# Altium integrated library Altera Stratix IV GT.IntLib: 42 symbols (part 13 of 84)
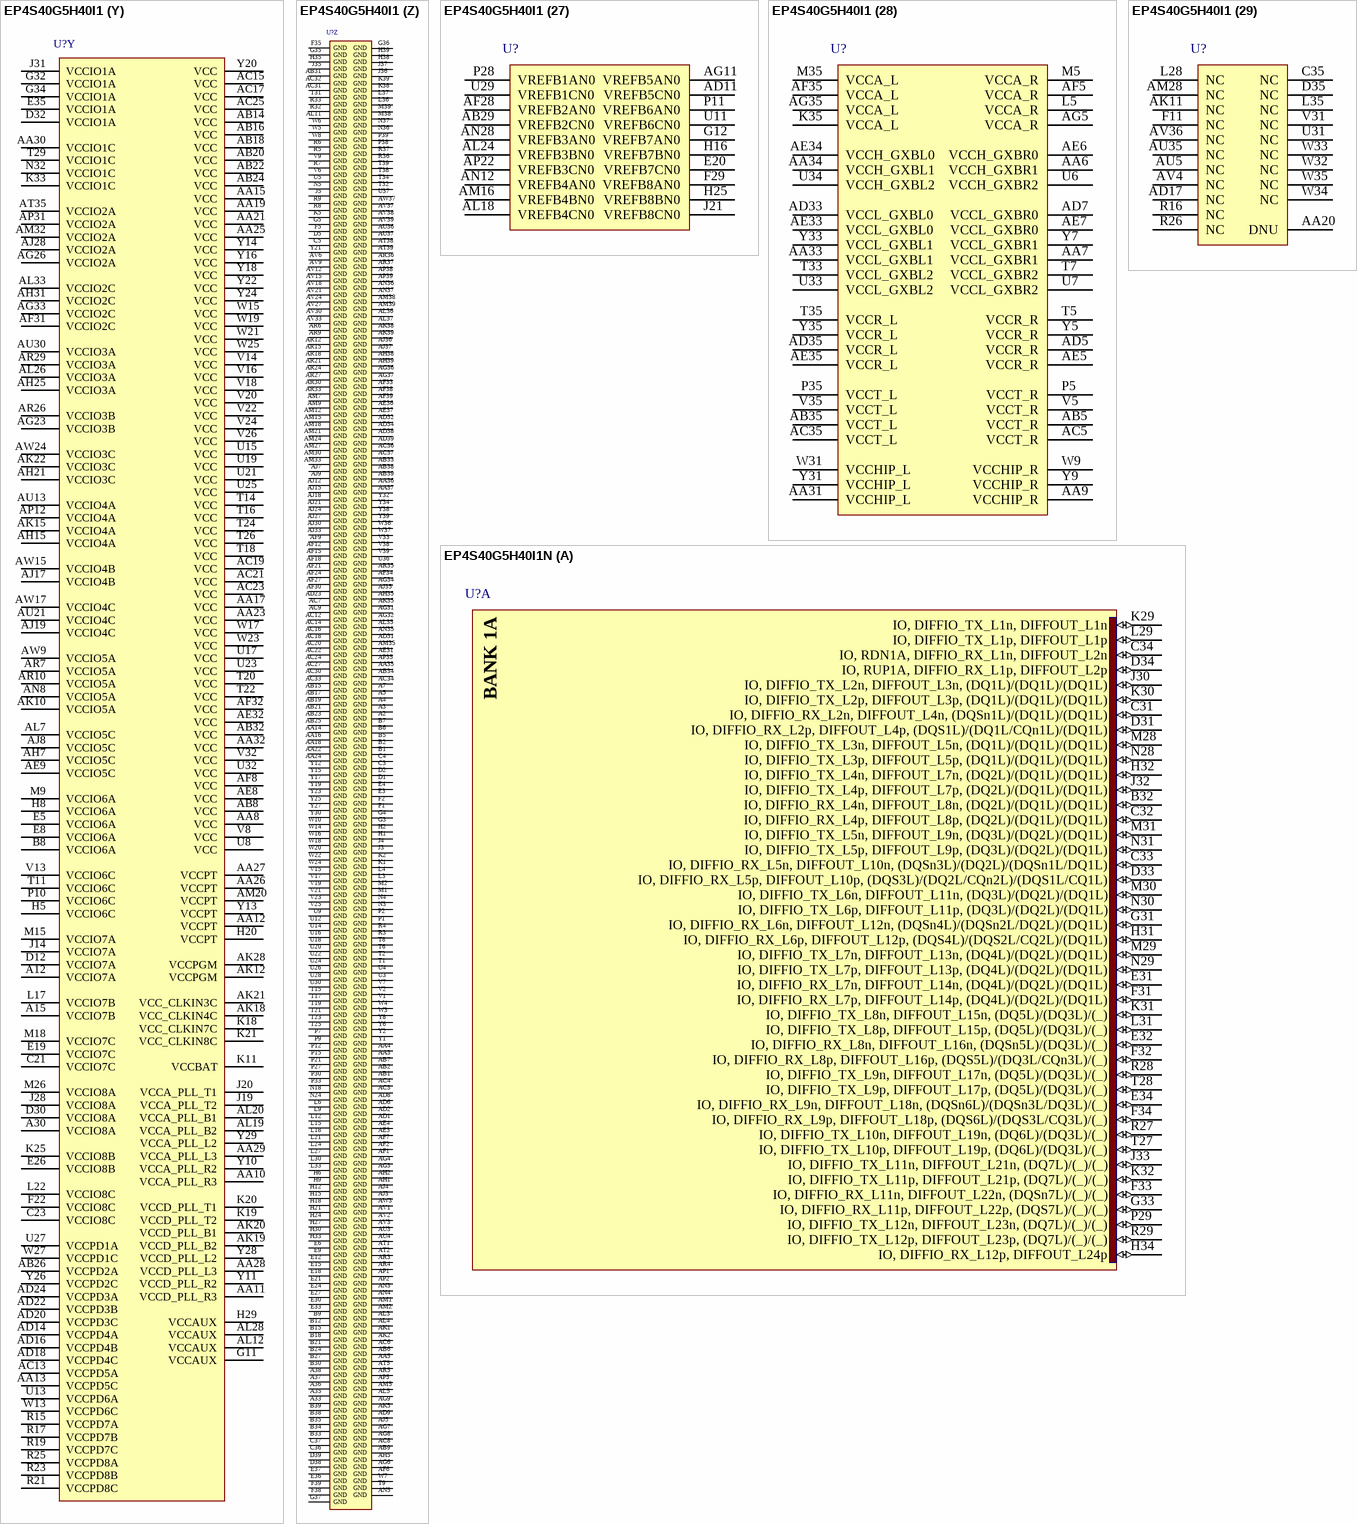
[diagram p281: symbols EP4S40G5H40I1 to EP4S40G5H40I1N]
## EP4S40G5H40I1
designator U?
Stratix IV GT FPGA, 654 I/Os, 1517-Pin Hybrid FineLine BGA, Speed Grade 1, Industrial Grade; Published: 25-Jun-2010; DatasheetVersion: ver4.3, Apr-2010; PackageVersion: ver16.1, Apr-2010; PackageReference: HBGA1517_EP4S40G5_SPL; Publisher: Altium Limited; PackageDescription: 1517-Ball Hybrid FineLine Ball Grid Array (HBGA1517) - Flip Chip - Single-Piece Lid (EP4S40G5); Supplier 1: Digi-Key; Supplier Part Number 1: EP4S40G5H40I1-ND; Code_JEDEC: MS-034-AAV-1; ComponentLink1Description: Manufacturer Link; ComponentLink1URL: http://www.altera.com/; ComponentLink2Description: Handbook; ComponentLink2URL: http://www.altera.com/literature/hb/stratix-iv/stratix4_handbook.pdf; ComponentLink3Description: Pinout Specification; ComponentLink3URL: http://www.altera.com/literature/lit-dp.jsp?category=Stx%204&showspreadsheet=y; ComponentLink4Description: Packaging Specification; ComponentLink4URL: http://www.altera.com/literature/ds/dspkg.pdf
footprint HBGA1517_EP4S40G5_SPL (BGA, 1517-Leads, Body 42.5x42.5mm, Pitch 1mm)
signal-integrity model EP4SGT_H1517 (Stratix IV)
part A pins: B32 IO, DIFFIO_RX_L4n, DIFFOUT_L8n, (DQ2L)/(DQ1L)/(DQ1L) (io), C31 IO, DIFFIO_RX_L2n, DIFFOUT_L4n, (DQSn1L)/(DQ1L)/(DQ1L) (io), C32 IO, DIFFIO_RX_L4p, DIFFOUT_L8p, (DQ2L)/(DQ1L)/(DQ1L) (io), C33 IO, DIFFIO_RX_L5n, DIFFOUT_L10n, (DQSn3L)/(DQ2L)/(DQSn1L/DQ1L) (io), C34 IO, RDN1A, DIFFIO_RX_L1n, DIFFOUT_L2n (io), D31 IO, DIFFIO_RX_L2p, DIFFOUT_L4p, (DQS1L)/(DQ1L/CQn1L)/(DQ1L) (io), D33 IO, DIFFIO_RX_L5p, DIFFOUT_L10p, (DQS3L)/(DQ2L/CQn2L)/(DQS1L/CQ1L) (io), D34 IO, RUP1A, DIFFIO_RX_L1p, DIFFOUT_L2p (io), E31 IO, DIFFIO_RX_L7n, DIFFOUT_L14n, (DQ4L)/(DQ2L)/(DQ1L) (io), E32 IO, DIFFIO_RX_L8n, DIFFOUT_L16n, (DQSn5L)/(DQ3L)/(_) (io), E34 IO, DIFFIO_RX_L9n, DIFFOUT_L18n, (DQSn6L)/(DQSn3L/DQ3L)/(_) (io), F31 IO, DIFFIO_RX_L7p, DIFFOUT_L14p, (DQ4L)/(DQ2L)/(DQ1L) (io), F32 IO, DIFFIO_RX_L8p, DIFFOUT_L16p, (DQS5L)/(DQ3L/CQn3L)/(_) (io), F33 IO, DIFFIO_RX_L11n, DIFFOUT_L22n, (DQSn7L)/(_)/(_) (io), F34 IO, DIFFIO_RX_L9p, DIFFOUT_L18p, (DQS6L)/(DQS3L/CQ3L)/(_) (io), G31 IO, DIFFIO_RX_L6n, DIFFOUT_L12n, (DQSn4L)/(DQSn2L/DQ2L)/(DQ1L) (io), G33 IO, DIFFIO_RX_L11p, DIFFOUT_L22p, (DQS7L)/(_)/(_) (io), H31 IO, DIFFIO_RX_L6p, DIFFOUT_L12p, (DQS4L)/(DQS2L/CQ2L)/(DQ1L) (io), H32 IO, DIFFIO_TX_L4n, DIFFOUT_L7n, (DQ2L)/(DQ1L)/(DQ1L) (io), H34 IO, DIFFIO_RX_L12p, DIFFOUT_L24p (io), J30 IO, DIFFIO_TX_L2n, DIFFOUT_L3n, (DQ1L)/(DQ1L)/(DQ1L) (io), J32 IO, DIFFIO_TX_L4p, DIFFOUT_L7p, (DQ2L)/(DQ1L)/(DQ1L) (io), J33 IO, DIFFIO_TX_L11n, DIFFOUT_L21n, (DQ7L)/(_)/(_) (io), K29 IO, DIFFIO_TX_L1n, DIFFOUT_L1n (io), K30 IO, DIFFIO_TX_L2p, DIFFOUT_L3p, (DQ1L)/(DQ1L)/(DQ1L) (io), K31 IO, DIFFIO_TX_L8n, DIFFOUT_L15n, (DQ5L)/(DQ3L)/(_) (io), K32 IO, DIFFIO_TX_L11p, DIFFOUT_L21p, (DQ7L)/(_)/(_) (io), L29 IO, DIFFIO_TX_L1p, DIFFOUT_L1p (io), L31 IO, DIFFIO_TX_L8p, DIFFOUT_L15p, (DQ5L)/(DQ3L)/(_) (io), M28 IO, DIFFIO_TX_L3n, DIFFOUT_L5n, (DQ1L)/(DQ1L)/(DQ1L) (io), M29 IO, DIFFIO_TX_L7n, DIFFOUT_L13n, (DQ4L)/(DQ2L)/(DQ1L) (io), M30 IO, DIFFIO_TX_L6n, DIFFOUT_L11n, (DQ3L)/(DQ2L)/(DQ1L) (io), M31 IO, DIFFIO_TX_L5n, DIFFOUT_L9n, (DQ3L)/(DQ2L)/(DQ1L) (io), N28 IO, DIFFIO_TX_L3p, DIFFOUT_L5p, (DQ1L)/(DQ1L)/(DQ1L) (io), N29 IO, DIFFIO_TX_L7p, DIFFOUT_L13p, (DQ4L)/(DQ2L)/(DQ1L) (io), N30 IO, DIFFIO_TX_L6p, DIFFOUT_L11p, (DQ3L)/(DQ2L)/(DQ1L) (io), N31 IO, DIFFIO_TX_L5p, DIFFOUT_L9p, (DQ3L)/(DQ2L)/(DQ1L) (io), P29 IO, DIFFIO_TX_L12n, DIFFOUT_L23n, (DQ7L)/(_)/(_) (io), R27 IO, DIFFIO_TX_L10n, DIFFOUT_L19n, (DQ6L)/(DQ3L)/(_) (io), R28 IO, DIFFIO_TX_L9n, DIFFOUT_L17n, (DQ5L)/(DQ3L)/(_) (io), R29 IO, DIFFIO_TX_L12p, DIFFOUT_L23p, (DQ7L)/(_)/(_) (io), T27 IO, DIFFIO_TX_L10p, DIFFOUT_L19p, (DQ6L)/(DQ3L)/(_) (io), T28 IO, DIFFIO_TX_L9p, DIFFOUT_L17p, (DQ5L)/(DQ3L)/(_) (io)
part B pins: L32 IO, DIFFIO_TX_L19n, DIFFOUT_L37n, (DQ12L)/(DQ12L)/(DQ12L) (io), L34 IO, DIFFIO_RX_L23p, DIFFOUT_L46p, (DQS15L)/(DQS13L/CQ13L)/(DQ12L) (io), M32 IO, DIFFIO_TX_L19p, DIFFOUT_L37p, (DQ12L)/(DQ12L)/(DQ12L) (io), M33 IO, DIFFIO_RX_L22p, DIFFOUT_L44p, (DQS14L)/(DQ13L/CQn13L)/(DQS12L/CQ12L) (io), M34 IO, DIFFIO_RX_L22n, DIFFOUT_L44n, (DQSn14L)/(DQ13L)/(DQSn12L/DQ12L) (io), N33 IO, DIFFIO_RX_L21p, DIFFOUT_L42p, (DQ13L)/(DQ12L)/(DQ12L) (io), N34 IO, DIFFIO_RX_L21n, DIFFOUT_L42n, (DQ13L)/(DQ12L)/(DQ12L) (io), P31 IO, DIFFIO_TX_L20p, DIFFOUT_L39p, (DQ12L)/(DQ12L)/(DQ12L) (io), P32 IO, DIFFIO_TX_L20n, DIFFOUT_L39n, (DQ12L)/(DQ12L)/(DQ12L) (io), P34 IO, (DATA3), DIFFIO_RX_L25p, DIFFOUT_L50p, (DQS16L)/(DQ14L/CQn14L)/(_) (io), R30 IO, DIFFIO_TX_L24p, DIFFOUT_L47p, (DQ15L)/(DQ13L)/(DQ12L) (io), T30 IO, DIFFIO_TX_L21p, DIFFOUT_L41p, (DQ13L)/(DQ12L)/(DQ12L) (io), V27 IO, (DATA4), DIFFIO_TX_L26n, DIFFOUT_L51n, (DQ16L)/(DQ14L)/(_) (io), V28 IO, DIFFIO_TX_L23n, DIFFOUT_L45n, (DQ14L)/(DQ13L)/(DQ12L) (io), V29 IO, (CRC_ERROR), DIFFIO_TX_L27p, DIFFOUT_L53p, (DQ17L)/(DQ14L)/(_) (io), V30 IO, (INIT_DONE), DIFFIO_TX_L27n, DIFFOUT_L53n, (DQ17L)/(DQ14L)/(_) (io), W26 IO, (DATA5), DIFFIO_TX_L26p, DIFFOUT_L51p, (DQ16L)/(DQ14L)/(_) (io), W28 IO, DIFFIO_TX_L23p, DIFFOUT_L45p, (DQ14L)/(DQ13L)/(DQ12L) (io), W29 IO, (DATA1), DIFFIO_TX_L25p, DIFFOUT_L49p, (DQ16L)/(DQ14L)/(_) (io), W30 IO, (DATA0), DIFFIO_TX_L25n, DIFFOUT_L49n, (DQ16L)/(DQ14L)/(_) (io)
part C pins: AC26 IO, DIFFIO_TX_L45p, DIFFOUT_L90p, (DQ28L)/(_)/(_) (io), AD26 IO, DIFFIO_TX_L45n, DIFFOUT_L90n, (DQ28L)/(_)/(_) (io), AD27 IO, DIFFIO_TX_L46p, DIFFOUT_L92p, (DQ28L)/(_)/(_) (io), AE26 IO, DIFFIO_TX_L51p, DIFFOUT_L102p, (DQ32L)/(DQ33L)/(DQ34L) (io), AE27 IO, DIFFIO_TX_L46n, DIFFOUT_L92n, (DQ28L)/(_)/(_) (io), AF26 IO, DIFFIO_TX_L51n, DIFFOUT_L102n, (DQ32L)/(DQ33L)/(DQ34L) (io), AG27 IO, DIFFIO_TX_L54p, DIFFOUT_L108p, (DQ34L)/(DQ34L)/(DQ34L) (io), AG28 IO, DIFFIO_TX_L53p, DIFFOUT_L106p, (DQ33L)/(DQ34L)/(DQ34L) (io), AG29 IO, DIFFIO_TX_L49p, DIFFOUT_L98p, (DQ30L)/(DQ32L)/(_) (io), AH27 IO, DIFFIO_TX_L54n, DIFFOUT_L108n, (DQ34L)/(DQ34L)/(DQ34L) (io), AH28 IO, DIFFIO_TX_L53n, DIFFOUT_L106n, (DQ33L)/(DQ34L)/(DQ34L) (io), AH29 IO, DIFFIO_TX_L49n, DIFFOUT_L98n, (DQ30L)/(DQ32L)/(_) (io), AH30 IO, DIFFIO_TX_L47n, DIFFOUT_L94n, (DQ29L)/(DQ32L)/(_) (io), AJ29 IO, DIFFIO_TX_L56p, DIFFOUT_L112p (io), AJ31 IO, DIFFIO_TX_L47p, DIFFOUT_L94p, (DQ29L)/(DQ32L)/(_) (io), AK29 IO, DIFFIO_TX_L56n, DIFFOUT_L112n (io), AK30 IO, DIFFIO_TX_L52p, DIFFOUT_L104p, (DQ32L)/(DQ33L)/(DQ34L) (io), AK31 IO, DIFFIO_TX_L50p, DIFFOUT_L100p, (DQ31L)/(DQ33L)/(DQ34L) (io), AK32 IO, DIFFIO_TX_L48p, DIFFOUT_L96p, (DQ30L)/(DQ32L)/(_) (io), AL29 IO, DIFFIO_TX_L55p, DIFFOUT_L110p, (DQ34L)/(DQ34L)/(DQ34L) (io), AL30 IO, DIFFIO_TX_L52n, DIFFOUT_L104n, (DQ32L)/(DQ33L)/(DQ34L) (io), AL31 IO, DIFFIO_TX_L50n, DIFFOUT_L100n, (DQ31L)/(DQ33L)/(DQ34L) (io), AL32 IO, DIFFIO_TX_L48n, DIFFOUT_L96n, (DQ30L)/(DQ32L)/(_) (io), AM29 IO, DIFFIO_TX_L55n, DIFFOUT_L110n, (DQ34L)/(DQ34L)/(DQ34L) (io), AM31 IO, DIFFIO_RX_L52p, DIFFOUT_L103p, (DQS32L)/(DQ33L/CQn33L)/(DQS34L/CQ34L) (io), AN30 IO, DIFFIO_RX_L51p, DIFFOUT_L101p, (DQS31L)/(DQS33L/CQ33L)/(DQ34L) (io), AN31 IO, DIFFIO_RX_L52n, DIFFOUT_L103n, (DQSn32L)/(DQ33L)/(DQSn34L/DQ34L) (io), AN32 IO, DIFFIO_RX_L45p, DIFFOUT_L89p (io), AN33 IO, DIFFIO_RX_L46p, DIFFOUT_L91p, (DQS28L)/(_)/(_) (io), AP30 IO, DIFFIO_RX_L51n, DIFFOUT_L101n, (DQSn31L)/(DQSn33L/DQ33L)/(DQ34L) (io), AP32 IO, DIFFIO_RX_L50p, DIFFOUT_L99p, (DQ31L)/(DQ33L)/(DQ34L) (io), AP33 IO, DIFFIO_RX_L45n, DIFFOUT_L89n (io), AP34 IO, DIFFIO_RX_L46n, DIFFOUT_L91n, (DQSn28L)/(_)/(_) (io), AR31 IO, DIFFIO_RX_L54p, DIFFOUT_L107p, (DQS33L)/(DQS34L/CQ34L)/(DQ34L/CQn34L) (io), AR32 IO, DIFFIO_RX_L50n, DIFFOUT_L99n, (DQ31L)/(DQ33L)/(DQ34L) (io), AR34 IO, DIFFIO_RX_L47n, DIFFOUT_L93n, (DQ29L)/(DQ32L)/(_) (io), AT30 IO, DIFFIO_RX_L54n, DIFFOUT_L107n, (DQSn33L)/(DQSn34L/DQ34L)/(DQ34L) (io), AT31 IO, DIFFIO_RX_L53p, DIFFOUT_L105p, (DQ33L)/(DQ34L)/(DQ34L) (io), AT32 IO, DIFFIO_RX_L55p, DIFFOUT_L109p, (DQS34L)/(DQ34L/CQn34L)/(DQ34L) (io), AT33 IO, DIFFIO_RX_L48p, DIFFOUT_L95p, (DQS29L)/(DQS32L/CQ32L)/(_) (io), AT34 IO, DIFFIO_RX_L47p, DIFFOUT_L93p, (DQ29L)/(DQ32L)/(_) (io), AU31 IO, DIFFIO_RX_L53n, DIFFOUT_L105n, (DQ33L)/(DQ34L)/(DQ34L) (io), AU32 IO, DIFFIO_RX_L55n, DIFFOUT_L109n, (DQSn34L)/(DQ34L)/(DQ34L) (io), AU33 IO, DIFFIO_RX_L48n, DIFFOUT_L95n, (DQSn29L)/(DQSn32L/DQ32L)/(_) (io), AU34 IO, RUP2A, DIFFIO_RX_L56p, DIFFOUT_L111p (io), AV34 IO, RDN2A, DIFFIO_RX_L56n, DIFFOUT_L111n (io)
part D pins: AB27 IO, DIFFIO_TX_L31p, DIFFOUT_L62p, (DQ19L)/(DQ21L)/(_) (io), AB28 IO, DIFFIO_TX_L31n, DIFFOUT_L62n, (DQ19L)/(DQ21L)/(_) (io), AB30 IO, DIFFIO_TX_L30p, DIFFOUT_L60p, (DQ18L)/(DQ21L)/(_) (io), AC28 IO, DIFFIO_TX_L32p, DIFFOUT_L64p, (DQ19L)/(DQ21L)/(_) (io), AC29 IO, DIFFIO_TX_L32n, DIFFOUT_L64n, (DQ19L)/(DQ21L)/(_) (io), AD28 IO, DIFFIO_TX_L34p, DIFFOUT_L68p, (DQ21L)/(DQ22L)/(DQ23L) (io), AD29 IO, DIFFIO_TX_L34n, DIFFOUT_L68n, (DQ21L)/(DQ22L)/(DQ23L) (io), AD30 IO, DIFFIO_TX_L36p, DIFFOUT_L72p, (DQ22L)/(DQ23L)/(DQ23L) (io), AE28 IO, DIFFIO_TX_L35p, DIFFOUT_L70p, (DQ21L)/(DQ22L)/(DQ23L) (io), AE29 IO, DIFFIO_TX_L35n, DIFFOUT_L70n, (DQ21L)/(DQ22L)/(DQ23L) (io), AE30 IO, DIFFIO_TX_L38p, DIFFOUT_L76p, (DQ23L)/(DQ23L)/(DQ23L) (io), AF29 IO, DIFFIO_TX_L37p, DIFFOUT_L74p, (DQ23L)/(DQ23L)/(DQ23L) (io), AG30 IO, DIFFIO_TX_L37n, DIFFOUT_L74n, (DQ23L)/(DQ23L)/(DQ23L) (io), AH32 IO, DIFFIO_RX_L35p, DIFFOUT_L69p, (DQS21L)/(DQ22L/CQn22L)/(DQS23L/CQ23L) (io), AH33 IO, DIFFIO_RX_L35n, DIFFOUT_L69n, (DQSn21L)/(DQ22L)/(DQSn23L/DQ23L) (io), AJ32 IO, DIFFIO_RX_L38p, DIFFOUT_L75p, (DQS23L)/(DQ23L/CQn23L)/(DQ23L) (io), AK33 IO, DIFFIO_RX_L38n, DIFFOUT_L75n, (DQSn23L)/(DQ23L)/(DQ23L) (io), AK34 IO, DIFFIO_RX_L33p, DIFFOUT_L65p, (DQ20L)/(DQ22L)/(DQ23L) (io), AL34 IO, DIFFIO_RX_L34p, DIFFOUT_L67p, (DQS20L)/(DQS22L/CQ22L)/(DQ23L) (io), AM34 IO, DIFFIO_RX_L37p, DIFFOUT_L73p, (DQS22L)/(DQS23L/CQ23L)/(DQ23L/CQn23L) (io), AN34 IO, DIFFIO_RX_L36p, DIFFOUT_L71p, (DQ22L)/(DQ23L)/(DQ23L) (io)
part E pins: AD25 IO, DIFFOUT_B1n, (DQ1B)/(DQ1B)/(DQ1B) (io), AE24 IO, DIFFOUT_B3n, (DQ1B)/(DQ1B)/(DQ1B) (io), AE25 IO, DIFFOUT_B1p, (DQ1B)/(DQ1B)/(DQ1B) (io), AF25 IO, RUP3A, DIFFIO_RX_B1p, DIFFOUT_B2p, (DQS1B)/(DQ1B/CQn1B)/(DQ1B) (io), AG24 IO, DIFFOUT_B19n (io), AG25 IO, RDN3A, DIFFIO_RX_B1n, DIFFOUT_B2n, (DQSn1B)/(DQ1B)/(DQ1B) (io), AH24 IO, DIFFOUT_B19p (io), AH26 IO, DIFFOUT_B5n, (DQ2B)/(DQ1B)/(DQ1B) (io), AJ25 IO, DIFFIO_RX_B3p, DIFFOUT_B6p, (DQ2B)/(DQ1B)/(DQ1B) (io), AJ26 IO, DIFFIO_RX_B2p, DIFFOUT_B4p, (DQS2B)/(DQS1B/CQ1B)/(DQ1B/CQn1B) (io), AK25 IO, DIFFIO_RX_B3n, DIFFOUT_B6n, (DQ2B)/(DQ1B)/(DQ1B) (io), AK26 IO, DIFFIO_RX_B2n, DIFFOUT_B4n, (DQSn2B)/(DQSn1B/DQ1B)/(DQ1B) (io), AK27 IO, DIFFOUT_B3p, (DQ1B)/(DQ1B)/(DQ1B) (io), AL25 IO, DIFFOUT_B15p, (DQ5B)/(DQ3B)/(_) (io), AL27 IO, DIFFOUT_B5p, (DQ2B)/(DQ1B)/(DQ1B) (io), AM26 IO, DIFFIO_RX_B7p, DIFFOUT_B14p, (DQS5B)/(DQ3B/CQn3B)/(_) (io), AN26 IO, DIFFIO_RX_B7n, DIFFOUT_B14n, (DQSn5B)/(DQ3B)/(_) (io), AN27 IO, DIFFOUT_B13n, (DQ5B)/(DQ3B)/(_) (io), AP26 IO, DIFFOUT_B15n, (DQ5B)/(DQ3B)/(_) (io), AP27 IO, DIFFOUT_B13p, (DQ5B)/(DQ3B)/(_) (io), AP28 IO, DIFFIO_RX_B8p, DIFFOUT_B16p, (DQS6B)/(DQS3B/CQ3B)/(_) (io), AR28 IO, DIFFIO_RX_B8n, DIFFOUT_B16n, (DQSn6B)/(DQSn3B/DQ3B)/(_) (io), AT27 IO, DIFFIO_RX_B10p, DIFFOUT_B20p (io), AT28 IO, DIFFIO_RX_B9p, DIFFOUT_B18p, (DQ6B)/(DQ3B)/(_) (io), AT29 IO, DIFFOUT_B17n, (DQ6B)/(DQ3B)/(_) (io), AU27 IO, DIFFIO_RX_B10n, DIFFOUT_B20n (io), AU28 IO, DIFFIO_RX_B9n, DIFFOUT_B18n, (DQ6B)/(DQ3B)/(_) (io), AU29 IO, DIFFOUT_B17p, (DQ6B)/(DQ3B)/(_) (io), AV28 IO, DIFFIO_RX_B6p, DIFFOUT_B12p, (DQ4B)/(DQ2B)/(DQ1B) (io), AV29 IO, DIFFIO_RX_B5p, DIFFOUT_B10p, (DQS4B)/(DQS2B/CQ2B)/(DQ1B) (io), AV31 IO, DIFFOUT_B9n, (DQ3B)/(DQ2B)/(DQ1B) (io), AV32 IO, DIFFIO_RX_B4p, DIFFOUT_B8p, (DQS3B)/(DQ2B/CQn2B)/(DQS1B/CQ1B) (io), AW27 IO, DIFFOUT_B11p, (DQ4B)/(DQ2B)/(DQ1B) (io), AW28 IO, DIFFOUT_B11n, (DQ4B)/(DQ2B)/(DQ1B) (io), AW29 IO, DIFFIO_RX_B6n, DIFFOUT_B12n, (DQ4B)/(DQ2B)/(DQ1B) (io), AW30 IO, DIFFIO_RX_B5n, DIFFOUT_B10n, (DQSn4B)/(DQSn2B/DQ2B)/(DQ1B) (io), AW31 IO, DIFFOUT_B9p, (DQ3B)/(DQ2B)/(DQ1B) (io), AW32 IO, DIFFIO_RX_B4n, DIFFOUT_B8n, (DQSn3B)/(DQ2B)/(DQSn1B/DQ1B) (io), AW33 IO, DIFFOUT_B7p, (DQ3B)/(DQ2B)/(DQ1B) (io), AW34 IO, DIFFOUT_B7n, (DQ3B)/(DQ2B)/(DQ1B) (io)
part F pins: AE22 IO, DIFFOUT_B33n, (DQ11B)/(DQ10B)/(DQ9B) (io), AE23 IO, DIFFOUT_B31p, (DQ11B)/(DQ10B)/(DQ9B) (io), AF22 IO, DIFFIO_RX_B16p, DIFFOUT_B32p, (DQS11B)/(DQ10B/CQn10B)/(DQS9B/CQ9B) (io), AF23 IO, DIFFOUT_B33p, (DQ11B)/(DQ10B)/(DQ9B) (io), AG22 IO, DIFFIO_RX_B16n, DIFFOUT_B32n, (DQSn11B)/(DQ10B)/(DQSn9B/DQ9B) (io), AH22 IO, DIFFOUT_B31n, (DQ11B)/(DQ10B)/(DQ9B) (io), AH23 IO, DIFFIO_RX_B18p, DIFFOUT_B36p, (DQ12B)/(DQ10B)/(DQ9B) (io), AJ22 IO, DIFFOUT_B35p, (DQ12B)/(DQ10B)/(DQ9B) (io), AJ23 IO, DIFFIO_RX_B18n, DIFFOUT_B36n, (DQ12B)/(DQ10B)/(DQ9B) (io), AK23 IO, DIFFIO_RX_B17p, DIFFOUT_B34p, (DQS12B)/(DQS10B/CQ10B)/(DQ9B) (io), AK24 IO, DIFFOUT_B35n, (DQ12B)/(DQ10B)/(DQ9B) (io), AL23 IO, DIFFIO_RX_B17n, DIFFOUT_B34n, (DQSn12B)/(DQSn10B/DQ10B)/(DQ9B) (io), AM25 IO, DIFFOUT_B25n, (DQ9B)/(DQ9B)/(DQ9B) (io), AN24 IO, DIFFIO_RX_B13p, DIFFOUT_B26p, (DQS9B)/(DQ9B/CQn9B)/(DQ9B) (io), AN25 IO, DIFFOUT_B25p, (DQ9B)/(DQ9B)/(DQ9B) (io), AP24 IO, DIFFIO_RX_B13n, DIFFOUT_B26n, (DQSn9B)/(DQ9B)/(DQ9B) (io), AP25 IO, DIFFOUT_B27n, (DQ9B)/(DQ9B)/(DQ9B) (io), AR25 IO, DIFFOUT_B27p, (DQ9B)/(DQ9B)/(DQ9B) (io), AT25 IO, DIFFOUT_B29n, (DQ10B)/(DQ9B)/(DQ9B) (io), AT26 IO, DIFFIO_RX_B14p, DIFFOUT_B28p, (DQS10B)/(DQS9B/CQ9B)/(DQ9B/CQn9B) (io), AU25 IO, DIFFOUT_B29p, (DQ10B)/(DQ9B)/(DQ9B) (io), AU26 IO, DIFFIO_RX_B14n, DIFFOUT_B28n, (DQSn10B)/(DQSn9B/DQ9B)/(DQ9B) (io), AV26 IO, DIFFIO_RX_B15p, DIFFOUT_B30p, (DQ10B)/(DQ9B)/(DQ9B) (io), AW26 IO, DIFFIO_RX_B15n, DIFFOUT_B30n, (DQ10B)/(DQ9B)/(DQ9B) (io)
part G pins: AD21 IO, DIFFOUT_B55p, (DQ19B)/(_)/(_) (io), AE20 IO, DIFFIO_RX_B28p, DIFFOUT_B56p, (DQS19B)/(_)/(_) (io), AE21 IO, DIFFOUT_B57n, (DQ19B)/(_)/(_) (io), AF20 IO, DIFFIO_RX_B28n, DIFFOUT_B56n, (DQSn19B)/(_)/(_) (io), AG20 IO, DIFFOUT_B55n, (DQ19B)/(_)/(_) (io), AG21 IO, DIFFOUT_B57p, (DQ19B)/(_)/(_) (io), AH20 IO, PLL_B1_CLKOUT3, DIFFOUT_B59p (io), AJ20 IO, PLL_B1_CLKOUT4, DIFFOUT_B59n (io), AL21 IO, DIFFOUT_B51n, (DQ17B)/(DQ17B)/(_) (io), AL22 IO, DIFFOUT_B51p, (DQ17B)/(DQ17B)/(_) (io), AM22 IO, RUP3C, DIFFIO_RX_B25p, DIFFOUT_B50p, (DQS17B)/(DQ17B/CQn17B)/(_) (io), AM23 IO, DIFFOUT_B49p, (DQ17B)/(DQ17B)/(_) (io), AN21 IO, PLL_B1_CLKOUT0p, DIFFOUT_B61p (io), AN22 IO, RDN3C, DIFFIO_RX_B25n, DIFFOUT_B50n, (DQSn17B)/(DQ17B)/(_) (io), AN23 IO, DIFFOUT_B49n, (DQ17B)/(DQ17B)/(_) (io), AP21 IO, PLL_B1_CLKOUT0n, DIFFOUT_B61n (io), AP23 IO, DIFFOUT_B53p, (DQ18B)/(DQ17B)/(_) (io), AR22 IO, CLK4p, DIFFIO_RX_B32p, DIFFOUT_B64p (io), AR23 IO, DIFFOUT_B53n, (DQ18B)/(DQ17B)/(_) (io), AT21 IO, CLK4n, DIFFIO_RX_B32n, DIFFOUT_B64n (io), AT22 IO, PLL_B1_FBp/CLKOUT1, DIFFIO_RX_B31p, DIFFOUT_B62p (io), AT23 IO, DIFFIO_RX_B27p, DIFFOUT_B54p, (DQ18B)/(DQ17B)/(_) (io), AT24 IO, DIFFIO_RX_B26p, DIFFOUT_B52p, (DQS18B)/(DQS17B/CQ17B)/(_) (io), AU22 IO, PLL_B1_FBn/CLKOUT2, DIFFIO_RX_B31n, DIFFOUT_B62n (io), AU23 IO, DIFFIO_RX_B27n, DIFFOUT_B54n, (DQ18B)/(DQ17B)/(_) (io), AU24 IO, DIFFIO_RX_B26n, DIFFOUT_B52n, (DQSn18B)/(DQSn17B/DQ17B)/(_) (io), AV22 IO, CLK5p, DIFFOUT_B63p (io), AV23 IO, DIFFIO_RX_B30p, DIFFOUT_B60p (io), AV25 IO, DIFFIO_RX_B29p, DIFFOUT_B58p (io), AW22 IO, CLK5n, DIFFOUT_B63n (io), AW23 IO, DIFFIO_RX_B30n, DIFFOUT_B60n (io), AW25 IO, DIFFIO_RX_B29n, DIFFOUT_B58n (io)
part H pins: AD15 IO, DIFFOUT_B128p, (DQ38B)/(DQ38B)/(DQ38B) (io), AE14 IO, RUP4A, DIFFIO_RX_B64p, DIFFOUT_B127p, (DQS38B)/(DQ38B/CQn38B)/(DQ38B) (io), AE15 IO, DIFFOUT_B128n, (DQ38B)/(DQ38B)/(DQ38B) (io), AE16 IO, DIFFOUT_B110p (io), AF14 IO, RDN4A, DIFFIO_RX_B64n, DIFFOUT_B127n, (DQSn38B)/(DQ38B)/(DQ38B) (io), AF16 IO, DIFFOUT_B110n (io), AG14 IO, DIFFOUT_B126p, (DQ38B)/(DQ38B)/(DQ38B) (io), AG15 IO, DIFFOUT_B126n, (DQ38B)/(DQ38B)/(DQ38B) (io), AH13 IO, DIFFOUT_B124p, (DQ37B)/(DQ38B)/(DQ38B) (io), AH14 IO, DIFFIO_RX_B63p, DIFFOUT_B125p, (DQS37B)/(DQS38B/CQ38B)/(DQ38B/CQn38B) (io), AJ13 IO, DIFFIO_RX_B62p, DIFFOUT_B123p, (DQ37B)/(DQ38B)/(DQ38B) (io), AJ14 IO, DIFFIO_RX_B63n, DIFFOUT_B125n, (DQSn37B)/(DQSn38B/DQ38B)/(DQ38B) (io), AK13 IO, DIFFIO_RX_B62n, DIFFOUT_B123n, (DQ37B)/(DQ38B)/(DQ38B) (io), AK14 IO, DIFFOUT_B124n, (DQ37B)/(DQ38B)/(DQ38B) (io), AL13 IO, DIFFIO_RX_B61p, DIFFOUT_B121p, (DQS36B)/(DQ37B/CQn37B)/(DQS38B/CQ38B) (io), AL14 IO, DIFFOUT_B122p, (DQ36B)/(DQ37B)/(DQ38B) (io), AL15 IO, DIFFOUT_B120n, (DQ36B)/(DQ37B)/(DQ38B) (io), AM13 IO, DIFFIO_RX_B61n, DIFFOUT_B121n, (DQSn36B)/(DQ37B)/(DQSn38B/DQ38B) (io), AM14 IO, DIFFOUT_B122n, (DQ36B)/(DQ37B)/(DQ38B) (io), AN13 IO, DIFFOUT_B120p, (DQ36B)/(DQ37B)/(DQ38B) (io), AN14 IO, DIFFOUT_B118n, (DQ35B)/(DQ37B)/(DQ38B) (io), AN15 IO, DIFFIO_RX_B55p, DIFFOUT_B109p (io), AP13 IO, DIFFOUT_B118p, (DQ35B)/(DQ37B)/(DQ38B) (io), AP14 IO, DIFFIO_RX_B59p, DIFFOUT_B117p, (DQ35B)/(DQ37B)/(DQ38B) (io), AP15 IO, DIFFIO_RX_B55n, DIFFOUT_B109n (io), AR13 IO, DIFFIO_RX_B60p, DIFFOUT_B119p, (DQS35B)/(DQS37B/CQ37B)/(DQ38B) (io), AR14 IO, DIFFIO_RX_B59n, DIFFOUT_B117n, (DQ35B)/(DQ37B)/(DQ38B) (io), AT12 IO, DIFFOUT_B116p, (DQ34B)/(DQ36B)/(_) (io), AT13 IO, DIFFIO_RX_B60n, DIFFOUT_B119n, (DQSn35B)/(DQSn37B/DQ37B)/(DQ38B) (io), AT14 IO, DIFFOUT_B112p, (DQ33B)/(DQ36B)/(_) (io), AU11 IO, DIFFIO_RX_B58p, DIFFOUT_B115p, (DQS34B)/(DQ36B/CQn36B)/(_) (io), AU12 IO, DIFFOUT_B116n, (DQ34B)/(DQ36B)/(_) (io), AU14 IO, DIFFOUT_B112n, (DQ33B)/(DQ36B)/(_) (io), AV11 IO, DIFFIO_RX_B58n, DIFFOUT_B115n, (DQSn34B)/(DQ36B)/(_) (io), AV13 IO, DIFFIO_RX_B57p, DIFFOUT_B113p, (DQS33B)/(DQS36B/CQ36B)/(_) (io), AV14 IO, DIFFIO_RX_B56p, DIFFOUT_B111p, (DQ33B)/(DQ36B)/(_) (io), AW11 IO, DIFFOUT_B114n, (DQ34B)/(DQ36B)/(_) (io), AW12 IO, DIFFOUT_B114p, (DQ34B)/(DQ36B)/(_) (io), AW13 IO, DIFFIO_RX_B57n, DIFFOUT_B113n, (DQSn33B)/(DQSn36B/DQ36B)/(_) (io), AW14 IO, DIFFIO_RX_B56n, DIFFOUT_B111n, (DQ33B)/(DQ36B)/(_) (io)
part I pins: AE17 IO, DIFFOUT_B96n, (DQ28B)/(DQ29B)/(DQ30B) (io), AF17 IO, DIFFIO_RX_B49p, DIFFOUT_B97p, (DQS28B)/(DQ29B/CQn29B)/(DQS30B/CQ30B) (io), AG16 IO, DIFFOUT_B98n, (DQ28B)/(DQ29B)/(DQ30B) (io), AG17 IO, DIFFIO_RX_B49n, DIFFOUT_B97n, (DQSn28B)/(DQ29B)/(DQSn30B/DQ30B) (io), AH16 IO, DIFFOUT_B98p, (DQ28B)/(DQ29B)/(DQ30B) (io), AH17 IO, DIFFOUT_B96p, (DQ28B)/(DQ29B)/(DQ30B) (io), AJ16 IO, DIFFOUT_B94p, (DQ27B)/(DQ29B)/(DQ30B) (io), AK16 IO, DIFFIO_RX_B48p, DIFFOUT_B95p, (DQS27B)/(DQS29B/CQ29B)/(DQ30B) (io), AK17 IO, DIFFIO_RX_B47p, DIFFOUT_B93p, (DQ27B)/(DQ29B)/(DQ30B) (io), AL16 IO, DIFFIO_RX_B48n, DIFFOUT_B95n, (DQSn27B)/(DQSn29B/DQ29B)/(DQ30B) (io), AL17 IO, DIFFIO_RX_B47n, DIFFOUT_B93n, (DQ27B)/(DQ29B)/(DQ30B) (io), AM17 IO, DIFFOUT_B94n, (DQ27B)/(DQ29B)/(DQ30B) (io), AN16 IO, DIFFOUT_B100p, (DQ29B)/(DQ30B)/(DQ30B) (io), AN17 IO, DIFFOUT_B100n, (DQ29B)/(DQ30B)/(DQ30B) (io), AP16 IO, DIFFIO_RX_B51p, DIFFOUT_B101p, (DQS29B)/(DQS30B/CQ30B)/(DQ30B/CQn30B) (io), AP17 IO, DIFFIO_RX_B50p, DIFFOUT_B99p, (DQ29B)/(DQ30B)/(DQ30B) (io), AR16 IO, DIFFIO_RX_B51n, DIFFOUT_B101n, (DQSn29B)/(DQSn30B/DQ30B)/(DQ30B) (io), AR17 IO, DIFFIO_RX_B50n, DIFFOUT_B99n, (DQ29B)/(DQ30B)/(DQ30B) (io), AT15 IO, DIFFOUT_B104n, (DQ30B)/(DQ30B)/(DQ30B) (io), AT16 IO, DIFFOUT_B102n, (DQ30B)/(DQ30B)/(DQ30B) (io), AU15 IO, DIFFOUT_B104p, (DQ30B)/(DQ30B)/(DQ30B) (io), AU16 IO, DIFFIO_RX_B52p, DIFFOUT_B103p, (DQS30B)/(DQ30B/CQn30B)/(DQ30B) (io), AV16 IO, DIFFIO_RX_B52n, DIFFOUT_B103n, (DQSn30B)/(DQ30B)/(DQ30B) (io), AW16 IO, DIFFOUT_B102p, (DQ30B)/(DQ30B)/(DQ30B) (io)
part J pins: AD19 IO, DIFFOUT_B72p, (DQ20B)/(_)/(_) (io), AE18 IO, DIFFOUT_B74n, (DQ20B)/(_)/(_) (io), AE19 IO, DIFFIO_RX_B37p, DIFFOUT_B73p, (DQS20B)/(_)/(_) (io), AF19 IO, DIFFIO_RX_B37n, DIFFOUT_B73n, (DQSn20B)/(_)/(_) (io), AG18 IO, DIFFOUT_B74p, (DQ20B)/(_)/(_) (io), AG19 IO, DIFFOUT_B72n, (DQ20B)/(_)/(_) (io), AH18 IO, PLL_B2_CLKOUT3, DIFFOUT_B70p (io), AH19 IO, PLL_B2_CLKOUT4, DIFFOUT_B70n (io), AM19 IO, DIFFOUT_B78n, (DQ22B)/(DQ22B)/(_) (io), AN18 IO, DIFFIO_RX_B40p, DIFFOUT_B79p, (DQS22B)/(DQ22B/CQn22B)/(_) (io), AN19 IO, DIFFOUT_B78p, (DQ22B)/(DQ22B)/(_) (io), AN20 IO, PLL_B2_CLKOUT0p, DIFFOUT_B68p (io), AP18 IO, DIFFIO_RX_B40n, DIFFOUT_B79n, (DQSn22B)/(DQ22B)/(_) (io), AP19 IO, DIFFOUT_B80n, (DQ22B)/(DQ22B)/(_) (io), AP20 IO, PLL_B2_CLKOUT0n, DIFFOUT_B68n (io), AR19 IO, DIFFOUT_B80p, (DQ22B)/(DQ22B)/(_) (io), AR20 IO, PLL_B2_FBp/CLKOUT1, DIFFIO_RX_B34p, DIFFOUT_B67p (io), AT17 IO, DIFFOUT_B76p, (DQ21B)/(DQ22B)/(_) (io), AT18 IO, DIFFIO_RX_B38p, DIFFOUT_B75p, (DQ21B)/(DQ22B)/(_) (io), AT19 IO, DIFFIO_RX_B36p, DIFFOUT_B71p (io), AT20 IO, PLL_B2_FBn/CLKOUT2, DIFFIO_RX_B34n, DIFFOUT_B67n (io), AU17 IO, DIFFIO_RX_B39p, DIFFOUT_B77p, (DQS21B)/(DQS22B/CQ22B)/(_) (io), AU18 IO, DIFFIO_RX_B38n, DIFFOUT_B75n, (DQ21B)/(DQ22B)/(_) (io), AU19 IO, DIFFIO_RX_B36n, DIFFOUT_B71n (io), AU20 IO, DIFFIO_RX_B35p, DIFFOUT_B69p (io), AV17 IO, DIFFIO_RX_B39n, DIFFOUT_B77n, (DQSn21B)/(DQSn22B/DQ22B)/(_) (io), AV19 IO, CLK7p, DIFFOUT_B66p (io), AV20 IO, DIFFIO_RX_B35n, DIFFOUT_B69n (io), AW18 IO, DIFFOUT_B76n, (DQ21B)/(DQ22B)/(_) (io), AW19 IO, CLK7n, DIFFOUT_B66n (io), AW20 IO, CLK6p, DIFFIO_RX_B33p, DIFFOUT_B65p (io), AW21 IO, CLK6n, DIFFIO_RX_B33n, DIFFOUT_B65n (io)
part K pins: AD12 IO, DIFFIO_TX_R12n, DIFFOUT_R23n, (DQ7R)/(_)/(_) (io), AD13 IO, DIFFIO_TX_R12p, DIFFOUT_R23p, (DQ7R)/(_)/(_) (io), AE12 IO, DIFFIO_TX_R11n, DIFFOUT_R21n, (DQ7R)/(_)/(_) (io), AE13 IO, DIFFIO_TX_R11p, DIFFOUT_R21p, (DQ7R)/(_)/(_) (io), AF13 IO, DIFFIO_TX_R5p, DIFFOUT_R9p, (DQ3R)/(DQ2R)/(DQ1R) (io), AG12 IO, DIFFIO_TX_R4p, DIFFOUT_R7p, (DQ2R)/(DQ1R)/(DQ1R) (io), AG13 IO, DIFFIO_TX_R5n, DIFFOUT_R9n, (DQ3R)/(DQ2R)/(DQ1R) (io), AH10 IO, DIFFIO_TX_R10p, DIFFOUT_R19p, (DQ6R)/(DQ3R)/(_) (io), AH11 IO, DIFFIO_TX_R3p, DIFFOUT_R5p, (DQ1R)/(DQ1R)/(DQ1R) (io), AH12 IO, DIFFIO_TX_R4n, DIFFOUT_R7n, (DQ2R)/(DQ1R)/(DQ1R) (io), AJ10 IO, DIFFIO_TX_R10n, DIFFOUT_R19n, (DQ6R)/(DQ3R)/(_) (io), AJ11 IO, DIFFIO_TX_R3n, DIFFOUT_R5n, (DQ1R)/(DQ1R)/(DQ1R) (io), AK9 IO, DIFFIO_TX_R8p, DIFFOUT_R15p, (DQ5R)/(DQ3R)/(_) (io), AL8 IO, DIFFIO_TX_R9p, DIFFOUT_R17p, (DQ5R)/(DQ3R)/(_) (io), AL9 IO, DIFFIO_TX_R8n, DIFFOUT_R15n, (DQ5R)/(DQ3R)/(_) (io), AL10 IO, DIFFIO_TX_R1p, DIFFOUT_R1p (io), AM8 IO, DIFFIO_TX_R9n, DIFFOUT_R17n, (DQ5R)/(DQ3R)/(_) (io), AM10 IO, DIFFIO_TX_R1n, DIFFOUT_R1n (io), AN7 IO, DIFFIO_TX_R7p, DIFFOUT_R13p, (DQ4R)/(DQ2R)/(DQ1R) (io), AN9 IO, DIFFIO_TX_R6p, DIFFOUT_R11p, (DQ3R)/(DQ2R)/(DQ1R) (io), AN10 IO, DIFFIO_TX_R2p, DIFFOUT_R3p, (DQ1R)/(DQ1R)/(DQ1R) (io), AP7 IO, DIFFIO_TX_R7n, DIFFOUT_R13n, (DQ4R)/(DQ2R)/(DQ1R) (io), AP8 IO, DIFFIO_RX_R7p, DIFFOUT_R14p, (DQ4R)/(DQ2R)/(DQ1R) (io), AP9 IO, DIFFIO_TX_R6n, DIFFOUT_R11n, (DQ3R)/(DQ2R)/(DQ1R) (io), AP10 IO, DIFFIO_TX_R2n, DIFFOUT_R3n, (DQ1R)/(DQ1R)/(DQ1R) (io), AR8 IO, DIFFIO_RX_R7n, DIFFOUT_R14n, (DQ4R)/(DQ2R)/(DQ1R) (io), AT6 IO, DIFFIO_RX_R9p, DIFFOUT_R18p, (DQS6R)/(DQS3R/CQ3R)/(_) (io), AT7 IO, DIFFIO_RX_R8p, DIFFOUT_R16p, (DQS5R)/(DQ3R/CQn3R)/(_) (io), AT8 IO, DIFFIO_RX_R6p, DIFFOUT_R12p, (DQS4R)/(DQS2R/CQ2R)/(DQ1R) (io), AT9 IO, DIFFIO_RX_R5p, DIFFOUT_R10p, (DQS3R)/(DQ2R/CQn2R)/(DQS1R/CQ1R) (io), AT10 IO, DIFFIO_RX_R3p, DIFFOUT_R6p, (DQS2R)/(DQS1R/CQ1R)/(DQ1R/CQn1R) (io), AU6 IO, DIFFIO_RX_R9n, DIFFOUT_R18n, (DQSn6R)/(DQSn3R/DQ3R)/(_) (io), AU7 IO, DIFFIO_RX_R8n, DIFFOUT_R16n, (DQSn5R)/(DQ3R)/(_) (io), AU8 IO, DIFFIO_RX_R6n, DIFFOUT_R12n, (DQSn4R)/(DQSn2R/DQ2R)/(DQ1R) (io), AU9 IO, DIFFIO_RX_R5n, DIFFOUT_R10n, (DQSn3R)/(DQ2R)/(DQSn1R/DQ1R) (io), AU10 IO, DIFFIO_RX_R3n, DIFFOUT_R6n, (DQSn2R)/(DQSn1R/DQ1R)/(DQ1R) (io), AV5 IO, DIFFIO_RX_R10p, DIFFOUT_R20p, (DQ6R)/(DQ3R)/(_) (io), AV7 IO, RUP5A, DIFFIO_RX_R1p, DIFFOUT_R2p (io), AV8 IO, DIFFIO_RX_R2p, DIFFOUT_R4p, (DQS1R)/(DQ1R/CQn1R)/(DQ1R) (io), AV10 IO, DIFFIO_RX_R4p, DIFFOUT_R8p, (DQ2R)/(DQ1R)/(DQ1R) (io), AW4 IO, DIFFIO_RX_R10n, DIFFOUT_R20n, (DQ6R)/(DQ3R)/(_) (io), AW5 IO, DIFFIO_RX_R12n, DIFFOUT_R24n (io), AW6 IO, DIFFIO_RX_R12p, DIFFOUT_R24p (io), AW7 IO, RDN5A, DIFFIO_RX_R1n, DIFFOUT_R2n (io), AW8 IO, DIFFIO_RX_R2n, DIFFOUT_R4n, (DQSn1R)/(DQ1R)/(DQ1R) (io), AW10 IO, DIFFIO_RX_R4n, DIFFOUT_R8n, (DQ2R)/(DQ1R)/(DQ1R) (io)
part L pins: AB10 IO, DIFFIO_TX_R26n, DIFFOUT_R51n, (DQ16R)/(DQ14R)/(_) (io), AB11 IO, DIFFIO_TX_R26p, DIFFOUT_R51p, (DQ16R)/(DQ14R)/(_) (io), AB12 IO, DIFFIO_TX_R27n, DIFFOUT_R53n, (DQ17R)/(DQ14R)/(_) (io), AB13 IO, DIFFIO_TX_R27p, DIFFOUT_R53p, (DQ17R)/(DQ14R)/(_) (io), AC10 IO, PLL_R3_CLKOUT0n, DIFFIO_TX_R28n, DIFFOUT_R55n (io), AC11 IO, PLL_R3_FB_CLKOUT0p, DIFFIO_TX_R28p, DIFFOUT_R55p (io), AD10 IO, DIFFIO_TX_R24p, DIFFOUT_R47p, (DQ15R)/(DQ13R)/(DQ12R) (io), AE10 IO, DIFFIO_TX_R21n, DIFFOUT_R41n, (DQ13R)/(DQ12R)/(DQ12R) (io), AE11 IO, DIFFIO_TX_R21p, DIFFOUT_R41p, (DQ13R)/(DQ12R)/(DQ12R) (io), AF10 IO, DIFFIO_TX_R22n, DIFFOUT_R43n, (DQ14R)/(DQ13R)/(DQ12R) (io), AF11 IO, DIFFIO_TX_R22p, DIFFOUT_R43p, (DQ14R)/(DQ13R)/(DQ12R) (io), AG10 IO, DIFFIO_TX_R23p, DIFFOUT_R45p, (DQ14R)/(DQ13R)/(DQ12R) (io), AH8 IO, DIFFIO_TX_R19n, DIFFOUT_R37n, (DQ12R)/(DQ12R)/(DQ12R) (io), AH9 IO, DIFFIO_TX_R19p, DIFFOUT_R37p, (DQ12R)/(DQ12R)/(DQ12R) (io), AK6 IO, DIFFIO_RX_R23p, DIFFOUT_R46p, (DQS15R)/(DQS13R/CQ13R)/(DQ12R) (io), AK7 IO, DIFFIO_TX_R20n, DIFFOUT_R39n, (DQ12R)/(DQ12R)/(DQ12R) (io), AK8 IO, DIFFIO_TX_R20p, DIFFOUT_R39p, (DQ12R)/(DQ12R)/(DQ12R) (io), AL6 IO, DIFFIO_RX_R22p, DIFFOUT_R44p, (DQS14R)/(DQ13R/CQn13R)/(DQS12R/CQ12R) (io), AM6 IO, DIFFIO_RX_R20p, DIFFOUT_R40p, (DQS13R)/(DQS12R/CQ12R)/(DQ12R/CQn12R) (io), AN6 IO, DIFFIO_RX_R21p, DIFFOUT_R42p, (DQ13R)/(DQ12R)/(DQ12R) (io), AP6 IO, DIFFIO_RX_R19p, DIFFOUT_R38p, (DQS12R)/(DQ12R/CQn12R)/(DQ12R) (io)
part M pins: C6 IO, RDN6A, DIFFIO_RX_R56n, DIFFOUT_R111n (io), C7 IO, DIFFIO_RX_R51n, DIFFOUT_R101n, (DQSn31R)/(DQSn33R/DQ33R)/(DQ34R) (io), C8 IO, DIFFIO_RX_R52n, DIFFOUT_R103n, (DQSn32R)/(DQ33R)/(DQSn34R/DQ34R) (io), C9 IO, DIFFIO_RX_R53n, DIFFOUT_R105n, (DQ33R)/(DQ34R)/(DQ34R) (io), C10 IO, DIFFIO_RX_R55n, DIFFOUT_R109n, (DQSn34R)/(DQ34R)/(DQ34R) (io), D6 IO, RUP6A, DIFFIO_RX_R56p, DIFFOUT_R111p (io), D7 IO, DIFFIO_RX_R51p, DIFFOUT_R101p, (DQS31R)/(DQS33R/CQ33R)/(DQ34R) (io), D8 IO, DIFFIO_RX_R52p, DIFFOUT_R103p, (DQS32R)/(DQ33R/CQn33R)/(DQS34R/CQ34R) (io), D9 IO, DIFFIO_RX_R53p, DIFFOUT_R105p, (DQ33R)/(DQ34R)/(DQ34R) (io), D10 IO, DIFFIO_RX_R55p, DIFFOUT_R109p, (DQS34R)/(DQ34R/CQn34R)/(DQ34R) (io), E7 IO, DIFFIO_RX_R46n, DIFFOUT_R91n, (DQSn28R)/(_)/(_) (io), E10 IO, DIFFIO_RX_R50n, DIFFOUT_R99n, (DQ31R)/(DQ33R)/(DQ34R) (io), F6 IO, DIFFIO_RX_R48n, DIFFOUT_R95n, (DQSn29R)/(DQSn32R/DQ32R)/(_) (io), F7 IO, DIFFIO_RX_R46p, DIFFOUT_R91p, (DQS28R)/(_)/(_) (io), F8 IO, DIFFIO_RX_R45n, DIFFOUT_R89n (io), F9 IO, DIFFIO_RX_R49n, DIFFOUT_R97n, (DQSn30R)/(DQ32R)/(_) (io), F10 IO, DIFFIO_RX_R50p, DIFFOUT_R99p, (DQ31R)/(DQ33R)/(DQ34R) (io), G6 IO, DIFFIO_RX_R48p, DIFFOUT_R95p, (DQS29R)/(DQS32R/CQ32R)/(_) (io), G7 IO, DIFFIO_TX_R46n, DIFFOUT_R92n, (DQ28R)/(_)/(_) (io), G8 IO, DIFFIO_RX_R45p, DIFFOUT_R89p (io), G9 IO, DIFFIO_RX_R49p, DIFFOUT_R97p, (DQS30R)/(DQ32R/CQn32R)/(_) (io), G10 IO, DIFFIO_TX_R56n, DIFFOUT_R112n (io), H7 IO, DIFFIO_TX_R46p, DIFFOUT_R92p, (DQ28R)/(_)/(_) (io), H10 IO, DIFFIO_TX_R56p, DIFFOUT_R112p (io), J8 IO, DIFFIO_TX_R52n, DIFFOUT_R104n, (DQ32R)/(DQ33R)/(DQ34R) (io), J9 IO, DIFFIO_TX_R51n, DIFFOUT_R102n, (DQ32R)/(DQ33R)/(DQ34R) (io), J10 IO, DIFFIO_TX_R55n, DIFFOUT_R110n, (DQ34R)/(DQ34R)/(DQ34R) (io), K8 IO, DIFFIO_TX_R52p, DIFFOUT_R104p, (DQ32R)/(DQ33R)/(DQ34R) (io), K9 IO, DIFFIO_TX_R51p, DIFFOUT_R102p, (DQ32R)/(DQ33R)/(DQ34R) (io), K10 IO, DIFFIO_TX_R55p, DIFFOUT_R110p, (DQ34R)/(DQ34R)/(DQ34R) (io), L10 IO, DIFFIO_TX_R50n, DIFFOUT_R100n, (DQ31R)/(DQ33R)/(DQ34R) (io), L11 IO, DIFFIO_TX_R53n, DIFFOUT_R106n, (DQ33R)/(DQ34R)/(DQ34R) (io), M10 IO, DIFFIO_TX_R50p, DIFFOUT_R100p, (DQ31R)/(DQ33R)/(DQ34R) (io), M11 IO, DIFFIO_TX_R53p, DIFFOUT_R106p, (DQ33R)/(DQ34R)/(DQ34R) (io), M12 IO, DIFFIO_TX_R54n, DIFFOUT_R108n, (DQ34R)/(DQ34R)/(DQ34R) (io), N10 IO, DIFFIO_TX_R49n, DIFFOUT_R98n, (DQ30R)/(DQ32R)/(_) (io), N11 IO, DIFFIO_TX_R49p, DIFFOUT_R98p, (DQ30R)/(DQ32R)/(_) (io), N12 IO, DIFFIO_TX_R54p, DIFFOUT_R108p, (DQ34R)/(DQ34R)/(DQ34R) (io), P13 IO, DIFFIO_TX_R47n, DIFFOUT_R94n, (DQ29R)/(DQ32R)/(_) (io), R11 IO, DIFFIO_TX_R48n, DIFFOUT_R96n, (DQ30R)/(DQ32R)/(_) (io), R12 IO, DIFFIO_TX_R48p, DIFFOUT_R96p, (DQ30R)/(DQ32R)/(_) (io), R13 IO, DIFFIO_TX_R47p, DIFFOUT_R94p, (DQ29R)/(DQ32R)/(_) (io), T12 IO, DIFFIO_TX_R45n, DIFFOUT_R90n, (DQ28R)/(_)/(_) (io), T13 IO, DIFFIO_TX_R45p, DIFFOUT_R90p, (DQ28R)/(_)/(_) (io)
part N pins: J6 IO, DIFFIO_RX_R38p, DIFFOUT_R75p, (DQS23R)/(DQ23R/CQn23R)/(DQ23R) (io), J7 IO, DIFFIO_TX_R38n, DIFFOUT_R76n, (DQ23R)/(DQ23R)/(DQ23R) (io), K6 IO, DIFFIO_RX_R37p, DIFFOUT_R73p, (DQS22R)/(DQS23R/CQ23R)/(DQ23R/CQn23R) (io), K7 IO, DIFFIO_TX_R38p, DIFFOUT_R76p, (DQ23R)/(DQ23R)/(DQ23R) (io), L7 IO, DIFFIO_TX_R37n, DIFFOUT_R74n, (DQ23R)/(DQ23R)/(DQ23R) (io), L8 IO, DIFFIO_TX_R37p, DIFFOUT_R74p, (DQ23R)/(DQ23R)/(DQ23R) (io), M6 IO, DIFFIO_RX_R35p, DIFFOUT_R69p, (DQS21R)/(DQ22R/CQn22R)/(DQS23R/CQ23R) (io), M7 IO, DIFFIO_TX_R36n, DIFFOUT_R72n, (DQ22R)/(DQ23R)/(DQ23R) (io), M8 IO, DIFFIO_TX_R36p, DIFFOUT_R72p, (DQ22R)/(DQ23R)/(DQ23R) (io), N7 IO, DIFFIO_RX_R36n, DIFFOUT_R71n, (DQ22R)/(DQ23R)/(DQ23R) (io), N8 IO, DIFFIO_RX_R36p, DIFFOUT_R71p, (DQ22R)/(DQ23R)/(DQ23R) (io), N9 IO, DIFFIO_TX_R33p, DIFFOUT_R66p, (DQ20R)/(DQ22R)/(DQ23R) (io), P8 IO, DIFFIO_TX_R33n, DIFFOUT_R66n, (DQ20R)/(DQ22R)/(DQ23R) (io), R10 IO, DIFFIO_TX_R34n, DIFFOUT_R68n, (DQ21R)/(DQ22R)/(DQ23R) (io), T10 IO, DIFFIO_TX_R34p, DIFFOUT_R68p, (DQ21R)/(DQ22R)/(DQ23R) (io), U10 IO, DIFFIO_TX_R31p, DIFFOUT_R62p, (DQ19R)/(DQ21R)/(_) (io), V10 IO, DIFFIO_TX_R32p, DIFFOUT_R64p, (DQ19R)/(DQ21R)/(_) (io), V11 IO, DIFFIO_TX_R30n, DIFFOUT_R60n, (DQ18R)/(DQ21R)/(_) (io), V12 IO, DIFFIO_TX_R30p, DIFFOUT_R60p, (DQ18R)/(DQ21R)/(_) (io), W11 IO, PLL_R2_CLKOUT0n, DIFFIO_TX_R29n, DIFFOUT_R58n (io), W12 IO, PLL_R2_FB_CLKOUT0p, DIFFIO_TX_R29p, DIFFOUT_R58p (io)
part O pins: A10 IO, DIFFOUT_T13p, (DQ5T)/(DQ3T)/(_) (io), A11 IO, DIFFIO_RX_T7n, DIFFOUT_T14n, (DQSn5T)/(DQ3T)/(_) (io), A13 IO, DIFFIO_RX_T9n, DIFFOUT_T18n, (DQ6T)/(DQ3T)/(_) (io), A14 IO, DIFFIO_RX_T10n, DIFFOUT_T20n (io), B10 IO, DIFFOUT_T15n, (DQ5T)/(DQ3T)/(_) (io), B11 IO, DIFFIO_RX_T7p, DIFFOUT_T14p, (DQS5T)/(DQ3T/CQn3T)/(_) (io), B13 IO, DIFFIO_RX_T9p, DIFFOUT_T18p, (DQ6T)/(DQ3T)/(_) (io), B14 IO, DIFFIO_RX_T10p, DIFFOUT_T20p (io), C11 IO, DIFFOUT_T13n, (DQ5T)/(DQ3T)/(_) (io), C12 IO, DIFFOUT_T17p, (DQ6T)/(DQ3T)/(_) (io), C13 IO, DIFFOUT_T17n, (DQ6T)/(DQ3T)/(_) (io), C14 IO, DIFFIO_RX_T8n, DIFFOUT_T16n, (DQSn6T)/(DQSn3T/DQ3T)/(_) (io), D11 IO, DIFFOUT_T15p, (DQ5T)/(DQ3T)/(_) (io), D13 IO, DIFFOUT_T11n, (DQ4T)/(DQ2T)/(DQ1T) (io), D14 IO, DIFFIO_RX_T8p, DIFFOUT_T16p, (DQS6T)/(DQS3T/CQ3T)/(_) (io), E13 IO, DIFFIO_RX_T5n, DIFFOUT_T10n, (DQSn4T)/(DQSn2T/DQ2T)/(DQ1T) (io), E14 IO, DIFFIO_RX_T6n, DIFFOUT_T12n, (DQ4T)/(DQ2T)/(DQ1T) (io), F12 IO, DIFFOUT_T11p, (DQ4T)/(DQ2T)/(DQ1T) (io), F13 IO, DIFFIO_RX_T5p, DIFFOUT_T10p, (DQS4T)/(DQS2T/CQ2T)/(DQ1T) (io), F14 IO, DIFFIO_RX_T6p, DIFFOUT_T12p, (DQ4T)/(DQ2T)/(DQ1T) (io), G13 IO, DIFFIO_RX_T4n, DIFFOUT_T8n, (DQSn3T)/(DQ2T)/(DQSn1T/DQ1T) (io), G14 IO, DIFFOUT_T9n, (DQ3T)/(DQ2T)/(DQ1T) (io), H13 IO, DIFFIO_RX_T4p, DIFFOUT_T8p, (DQS3T)/(DQ2T/CQn2T)/(DQS1T/CQ1T) (io), H14 IO, DIFFOUT_T9p, (DQ3T)/(DQ2T)/(DQ1T) (io), J12 IO, DIFFOUT_T7p, (DQ3T)/(DQ2T)/(DQ1T) (io), J13 IO, DIFFOUT_T7n, (DQ3T)/(DQ2T)/(DQ1T) (io), J15 IO, DIFFOUT_T19n (io), K12 IO, DIFFOUT_T5n, (DQ2T)/(DQ1T)/(DQ1T) (io), K13 IO, DIFFIO_RX_T2n, DIFFOUT_T4n, (DQSn2T)/(DQSn1T/DQ1T)/(DQ1T) (io), K14 IO, DIFFIO_RX_T3n, DIFFOUT_T6n, (DQ2T)/(DQ1T)/(DQ1T) (io), K15 IO, DIFFOUT_T19p (io), L13 IO, DIFFIO_RX_T2p, DIFFOUT_T4p, (DQS2T)/(DQS1T/CQ1T)/(DQ1T/CQn1T) (io), L14 IO, DIFFIO_RX_T3p, DIFFOUT_T6p, (DQ2T)/(DQ1T)/(DQ1T) (io), M13 IO, DIFFOUT_T1n, (DQ1T)/(DQ1T)/(DQ1T) (io), M14 IO, DIFFOUT_T5p, (DQ2T)/(DQ1T)/(DQ1T) (io), N13 IO, DIFFOUT_T1p, (DQ1T)/(DQ1T)/(DQ1T) (io), N14 IO, RDN7A, DIFFIO_RX_T1n, DIFFOUT_T2n, (DQSn1T)/(DQ1T)/(DQ1T) (io), N15 IO, DIFFOUT_T3n, (DQ1T)/(DQ1T)/(DQ1T) (io), P14 IO, RUP7A, DIFFIO_RX_T1p, DIFFOUT_T2p, (DQS1T)/(DQ1T/CQn1T)/(DQ1T) (io), R14 IO, DIFFOUT_T3p, (DQ1T)/(DQ1T)/(DQ1T) (io)
part P pins: A16 IO, DIFFOUT_T29n, (DQ10T)/(DQ9T)/(DQ9T) (io), B16 IO, DIFFIO_RX_T15n, DIFFOUT_T30n, (DQ10T)/(DQ9T)/(DQ9T) (io), C15 IO, DIFFIO_RX_T14n, DIFFOUT_T28n, (DQSn10T)/(DQSn9T/DQ9T)/(DQ9T) (io), C16 IO, DIFFIO_RX_T15p, DIFFOUT_T30p, (DQ10T)/(DQ9T)/(DQ9T) (io), D15 IO, DIFFIO_RX_T14p, DIFFOUT_T28p, (DQS10T)/(DQS9T/CQ9T)/(DQ9T/CQn9T) (io), D16 IO, DIFFOUT_T29p, (DQ10T)/(DQ9T)/(DQ9T) (io), E16 IO, DIFFOUT_T25p, (DQ9T)/(DQ9T)/(DQ9T) (io), F15 IO, DIFFOUT_T27p, (DQ9T)/(DQ9T)/(DQ9T) (io), F16 IO, DIFFIO_RX_T13n, DIFFOUT_T26n, (DQSn9T)/(DQ9T)/(DQ9T) (io), G15 IO, DIFFOUT_T25n, (DQ9T)/(DQ9T)/(DQ9T) (io), G16 IO, DIFFIO_RX_T13p, DIFFOUT_T26p, (DQS9T)/(DQ9T/CQn9T)/(DQ9T) (io), G17 IO, DIFFOUT_T27n, (DQ9T)/(DQ9T)/(DQ9T) (io), H17 IO, DIFFIO_RX_T18n, DIFFOUT_T36n, (DQ12T)/(DQ10T)/(DQ9T) (io), J16 IO, DIFFIO_RX_T17n, DIFFOUT_T34n, (DQSn12T)/(DQSn10T/DQ10T)/(DQ9T) (io), J17 IO, DIFFIO_RX_T18p, DIFFOUT_T36p, (DQ12T)/(DQ10T)/(DQ9T) (io), K16 IO, DIFFIO_RX_T17p, DIFFOUT_T34p, (DQS12T)/(DQS10T/CQ10T)/(DQ9T) (io), K17 IO, DIFFOUT_T35n, (DQ12T)/(DQ10T)/(DQ9T) (io), L16 IO, DIFFOUT_T35p, (DQ12T)/(DQ10T)/(DQ9T) (io), M16 IO, DIFFIO_RX_T16n, DIFFOUT_T32n, (DQSn11T)/(DQ10T)/(DQSn9T/DQ9T) (io), M17 IO, DIFFOUT_T33p, (DQ11T)/(DQ10T)/(DQ9T) (io), N16 IO, DIFFIO_RX_T16p, DIFFOUT_T32p, (DQS11T)/(DQ10T/CQn10T)/(DQS9T/CQ9T) (io), N17 IO, DIFFOUT_T33n, (DQ11T)/(DQ10T)/(DQ9T) (io), P16 IO, DIFFOUT_T31n, (DQ11T)/(DQ10T)/(DQ9T) (io), P17 IO, DIFFOUT_T31p, (DQ11T)/(DQ10T)/(DQ9T) (io)
part Q pins: A17 IO, DIFFIO_RX_T28n, DIFFOUT_T56n, (DQSn19T)/(_)/(_) (io), A18 IO, DIFFIO_RX_T29n, DIFFOUT_T58n (io), A19 IO, CLK13n, DIFFOUT_T63n (io), A20 IO, CLK12n, DIFFIO_RX_T32n, DIFFOUT_T64n (io), A21 IO, CLK12p, DIFFIO_RX_T32p, DIFFOUT_T64p (io), B17 IO, DIFFIO_RX_T28p, DIFFOUT_T56p, (DQS19T)/(_)/(_) (io), B19 IO, DIFFIO_RX_T29p, DIFFOUT_T58p (io), B20 IO, CLK13p, DIFFOUT_T63p (io), C17 IO, DIFFOUT_T49n, (DQ17T)/(DQ17T)/(_) (io), C18 IO, DIFFOUT_T51n, (DQ17T)/(DQ17T)/(_) (io), C19 IO, DIFFIO_RX_T30n, DIFFOUT_T60n (io), C20 IO, PLL_T2_FBn/CLKOUT2, DIFFIO_RX_T31n, DIFFOUT_T62n (io), D17 IO, DIFFIO_RX_T25n, DIFFOUT_T50n, (DQSn17T)/(DQ17T)/(_) (io), D18 IO, DIFFOUT_T51p, (DQ17T)/(DQ17T)/(_) (io), D19 IO, DIFFIO_RX_T30p, DIFFOUT_T60p (io), D20 IO, PLL_T2_FBp/CLKOUT1, DIFFIO_RX_T31p, DIFFOUT_T62p (io), E17 IO, DIFFIO_RX_T25p, DIFFOUT_T50p, (DQS17T)/(DQ17T/CQn17T)/(_) (io), F17 IO, DIFFOUT_T49p, (DQ17T)/(DQ17T)/(_) (io), F18 IO, DIFFIO_RX_T26n, DIFFOUT_T52n, (DQSn18T)/(DQSn17T/DQ17T)/(_) (io), F19 IO, DIFFIO_RX_T27n, DIFFOUT_T54n, (DQ18T)/(DQ17T)/(_) (io), F20 IO, DIFFOUT_T53p, (DQ18T)/(DQ17T)/(_) (io), G18 IO, DIFFIO_RX_T26p, DIFFOUT_T52p, (DQS18T)/(DQS17T/CQ17T)/(_) (io), G19 IO, DIFFIO_RX_T27p, DIFFOUT_T54p, (DQ18T)/(DQ17T)/(_) (io), G20 IO, DIFFOUT_T53n, (DQ18T)/(DQ17T)/(_) (io), H19 IO, DIFFOUT_T57n, (DQ19T)/(_)/(_) (io), J18 IO, DIFFOUT_T55p, (DQ19T)/(_)/(_) (io), L19 IO, PLL_T2_CLKOUT3, DIFFOUT_T59p (io), M19 IO, PLL_T2_CLKOUT4, DIFFOUT_T59n (io), N19 IO, PLL_T2_CLKOUT0n, DIFFOUT_T61n (io), P18 IO, DIFFOUT_T57p, (DQ19T)/(_)/(_) (io), P19 IO, PLL_T2_CLKOUT0p, DIFFOUT_T61p (io), R18 IO, DIFFOUT_T55n, (DQ19T)/(_)/(_) (io)
part R pins: A27 IO, DIFFIO_RX_T56n, DIFFOUT_T111n, (DQ33T)/(DQ36T)/(_) (io), A28 IO, DIFFIO_RX_T56p, DIFFOUT_T111p, (DQ33T)/(DQ36T)/(_) (io), A29 IO, DIFFIO_RX_T58n, DIFFOUT_T115n, (DQSn34T)/(DQ36T)/(_) (io), A31 IO, DIFFOUT_T114n, (DQ34T)/(DQ36T)/(_) (io), B28 IO, DIFFIO_RX_T57n, DIFFOUT_T113n, (DQSn33T)/(DQSn36T/DQ36T)/(_) (io), B29 IO, DIFFIO_RX_T58p, DIFFOUT_T115p, (DQS34T)/(DQ36T/CQn36T)/(_) (io), B31 IO, DIFFOUT_T114p, (DQ34T)/(DQ36T)/(_) (io), C27 IO, DIFFOUT_T112p, (DQ33T)/(DQ36T)/(_) (io), C28 IO, DIFFIO_RX_T57p, DIFFOUT_T113p, (DQS33T)/(DQS36T/CQ36T)/(_) (io), C29 IO, DIFFOUT_T116p, (DQ34T)/(DQ36T)/(_) (io), C30 IO, DIFFOUT_T116n, (DQ34T)/(DQ36T)/(_) (io), D27 IO, DIFFOUT_T112n, (DQ33T)/(DQ36T)/(_) (io), D28 IO, DIFFOUT_T118p, (DQ35T)/(DQ37T)/(DQ38T) (io), D29 IO, DIFFIO_RX_T60n, DIFFOUT_T119n, (DQSn35T)/(DQSn37T/DQ37T)/(DQ38T) (io), E28 IO, DIFFIO_RX_T59n, DIFFOUT_T117n, (DQ35T)/(DQ37T)/(DQ38T) (io), E29 IO, DIFFIO_RX_T60p, DIFFOUT_T119p, (DQS35T)/(DQS37T/CQ37T)/(DQ38T) (io), F26 IO, DIFFIO_RX_T55n, DIFFOUT_T109n (io), F27 IO, DIFFOUT_T118n, (DQ35T)/(DQ37T)/(DQ38T) (io), F28 IO, DIFFIO_RX_T59p, DIFFOUT_T117p, (DQ35T)/(DQ37T)/(DQ38T) (io), G26 IO, DIFFIO_RX_T55p, DIFFOUT_T109p (io), G27 IO, DIFFOUT_T120p, (DQ36T)/(DQ37T)/(DQ38T) (io), G28 IO, DIFFIO_RX_T61n, DIFFOUT_T121n, (DQSn36T)/(DQ37T)/(DQSn38T/DQ38T) (io), G29 IO, DIFFOUT_T122n, (DQ36T)/(DQ37T)/(DQ38T) (io), H26 IO, DIFFOUT_T120n, (DQ36T)/(DQ37T)/(DQ38T) (io), H28 IO, DIFFIO_RX_T61p, DIFFOUT_T121p, (DQS36T)/(DQ37T/CQn37T)/(DQS38T/CQ38T) (io), J26 IO, DIFFOUT_T122p, (DQ36T)/(DQ37T)/(DQ38T) (io), J27 IO, DIFFIO_RX_T63n, DIFFOUT_T125n, (DQSn37T)/(DQSn38T/DQ38T)/(DQ38T) (io), K26 IO, DIFFIO_RX_T62n, DIFFOUT_T123n, (DQ37T)/(DQ38T)/(DQ38T) (io), K27 IO, DIFFIO_RX_T63p, DIFFOUT_T125p, (DQS37T)/(DQS38T/CQ38T)/(DQ38T/CQn38T) (io), K28 IO, DIFFOUT_T124n, (DQ37T)/(DQ38T)/(DQ38T) (io), L25 IO, DIFFOUT_T124p, (DQ37T)/(DQ38T)/(DQ38T) (io), L26 IO, DIFFIO_RX_T62p, DIFFOUT_T123p, (DQ37T)/(DQ38T)/(DQ38T) (io), M25 IO, DIFFOUT_T126p, (DQ38T)/(DQ38T)/(DQ38T) (io), M27 IO, DIFFOUT_T128n, (DQ38T)/(DQ38T)/(DQ38T) (io), N25 IO, DIFFOUT_T126n, (DQ38T)/(DQ38T)/(DQ38T) (io), N26 IO, RDN8A, DIFFIO_RX_T64n, DIFFOUT_T127n, (DQSn38T)/(DQ38T)/(DQ38T) (io), P24 IO, DIFFOUT_T110p (io), P25 IO, DIFFOUT_T128p, (DQ38T)/(DQ38T)/(DQ38T) (io), P26 IO, RUP8A, DIFFIO_RX_T64p, DIFFOUT_T127p, (DQS38T)/(DQ38T/CQn38T)/(DQ38T) (io), R24 IO, DIFFOUT_T110n (io)
part S pins: A26 IO, DIFFOUT_T104p, (DQ30T)/(DQ30T)/(DQ30T) (io), B25 IO, DIFFOUT_T102n, (DQ30T)/(DQ30T)/(DQ30T) (io), B26 IO, DIFFIO_RX_T52n, DIFFOUT_T103n, (DQSn30T)/(DQ30T)/(DQ30T) (io), C25 IO, DIFFOUT_T102p, (DQ30T)/(DQ30T)/(DQ30T) (io), C26 IO, DIFFIO_RX_T52p, DIFFOUT_T103p, (DQS30T)/(DQ30T/CQn30T)/(DQ30T) (io), D25 IO, DIFFOUT_T100n, (DQ29T)/(DQ30T)/(DQ30T) (io), D26 IO, DIFFOUT_T104n, (DQ30T)/(DQ30T)/(DQ30T) (io), E25 IO, DIFFIO_RX_T51n, DIFFOUT_T101n, (DQSn29T)/(DQSn30T/DQ30T)/(DQ30T) (io), F24 IO, DIFFIO_RX_T50n, DIFFOUT_T99n, (DQ29T)/(DQ30T)/(DQ30T) (io), F25 IO, DIFFIO_RX_T51p, DIFFOUT_T101p, (DQS29T)/(DQS30T/CQ30T)/(DQ30T/CQn30T) (io), G24 IO, DIFFIO_RX_T50p, DIFFOUT_T99p, (DQ29T)/(DQ30T)/(DQ30T) (io), G25 IO, DIFFOUT_T100p, (DQ29T)/(DQ30T)/(DQ30T) (io), J24 IO, DIFFIO_RX_T47n, DIFFOUT_T93n, (DQ27T)/(DQ29T)/(DQ30T) (io), J25 IO, DIFFOUT_T94n, (DQ27T)/(DQ29T)/(DQ30T) (io), K23 IO, DIFFIO_RX_T48n, DIFFOUT_T95n, (DQSn27T)/(DQSn29T/DQ29T)/(DQ30T) (io), K24 IO, DIFFIO_RX_T47p, DIFFOUT_T93p, (DQ27T)/(DQ29T)/(DQ30T) (io), L23 IO, DIFFIO_RX_T48p, DIFFOUT_T95p, (DQS27T)/(DQS29T/CQ29T)/(DQ30T) (io), M23 IO, DIFFOUT_T96n, (DQ28T)/(DQ29T)/(DQ30T) (io), M24 IO, DIFFOUT_T94p, (DQ27T)/(DQ29T)/(DQ30T) (io), N22 IO, DIFFOUT_T96p, (DQ28T)/(DQ29T)/(DQ30T) (io), N23 IO, DIFFIO_RX_T49n, DIFFOUT_T97n, (DQSn28T)/(DQ29T)/(DQSn30T/DQ30T) (io), P22 IO, DIFFOUT_T98n, (DQ28T)/(DQ29T)/(DQ30T) (io), P23 IO, DIFFIO_RX_T49p, DIFFOUT_T97p, (DQS28T)/(DQ29T/CQn29T)/(DQS30T/CQ30T) (io), R22 IO, DIFFOUT_T98p, (DQ28T)/(DQ29T)/(DQ30T) (io)
part T pins: A22 IO, CLK14n, DIFFIO_RX_T33n, DIFFOUT_T65n (io), A23 IO, CLK15n, DIFFOUT_T66n (io), A24 IO, DIFFIO_RX_T36n, DIFFOUT_T71n (io), A25 IO, DIFFIO_RX_T36p, DIFFOUT_T71p (io), B22 IO, CLK14p, DIFFIO_RX_T33p, DIFFOUT_T65p (io), B23 IO, CLK15p, DIFFOUT_T66p (io), C22 IO, DIFFIO_RX_T35n, DIFFOUT_T69n (io), C24 IO, DIFFIO_RX_T37n, DIFFOUT_T73n, (DQSn20T)/(_)/(_) (io), D21 IO, DIFFIO_RX_T35p, DIFFOUT_T69p (io), D22 IO, DIFFOUT_T78n, (DQ22T)/(DQ22T)/(_) (io), D23 IO, RDN8C, DIFFIO_RX_T40n, DIFFOUT_T79n, (DQSn22T)/(DQ22T)/(_) (io), D24 IO, DIFFIO_RX_T37p, DIFFOUT_T73p, (DQS20T)/(_)/(_) (io), E22 IO, DIFFOUT_T78p, (DQ22T)/(DQ22T)/(_) (io), E23 IO, RUP8C, DIFFIO_RX_T40p, DIFFOUT_T79p, (DQS22T)/(DQ22T/CQn22T)/(_) (io), F21 IO, PLL_T1_FBn/CLKOUT2, DIFFIO_RX_T34n, DIFFOUT_T67n (io), F23 IO, DIFFOUT_T80n, (DQ22T)/(DQ22T)/(_) (io), G21 IO, PLL_T1_FBp/CLKOUT1, DIFFIO_RX_T34p, DIFFOUT_T67p (io), G22 IO, DIFFOUT_T76p, (DQ21T)/(DQ22T)/(_) (io), G23 IO, DIFFOUT_T80p, (DQ22T)/(DQ22T)/(_) (io), H22 IO, DIFFIO_RX_T38n, DIFFOUT_T75n, (DQ21T)/(DQ22T)/(_) (io), H23 IO, DIFFIO_RX_T39n, DIFFOUT_T77n, (DQSn21T)/(DQSn22T/DQ22T)/(_) (io), J22 IO, DIFFIO_RX_T38p, DIFFOUT_T75p, (DQ21T)/(DQ22T)/(_) (io), J23 IO, DIFFIO_RX_T39p, DIFFOUT_T77p, (DQS21T)/(DQS22T/CQ22T)/(_) (io), K22 IO, DIFFOUT_T76n, (DQ21T)/(DQ22T)/(_) (io), L20 IO, PLL_T1_CLKOUT0n, DIFFOUT_T68n (io), M20 IO, PLL_T1_CLKOUT0p, DIFFOUT_T68p (io), M21 IO, DIFFOUT_T72p, (DQ20T)/(_)/(_) (io), M22 IO, DIFFOUT_T74n, (DQ20T)/(_)/(_) (io), N20 IO, PLL_T1_CLKOUT3, DIFFOUT_T70p (io), N21 IO, DIFFOUT_T74p, (DQ20T)/(_)/(_) (io), P20 IO, PLL_T1_CLKOUT4, DIFFOUT_T70n (io), R20 IO, DIFFOUT_T72n, (DQ20T)/(_)/(_) (io)
part U pins: AH6 CLK8n (in), AH34 CLK3n (in), AJ6 CLK8p (in), AJ34 CLK3p (in), J34 CLK1n (in), K34 CLK1p (in), N6 CLK10n (in), P6 CLK10p (in)
part V pins: A8 MSEL2 (in), A9 TEMPDIODEp (in), A32 TRST (in), AM11 nIO_PULLUP (in), AN11 ASDO (out), AN29 nCE (in), AP11 nCSO (out), AP29 PORSEL (in), AR11 DCLK (io), AT11 nCEO (out), AV35 CONF_DONE (io), AW35 nSTATUS (io), AW36 nCONFIG (in), E11 TEMPDIODEn (in), F30 TDO (out), G30 TCK (in), H11 MSEL1 (in), J11 MSEL0 (in), J29 TDI (in), N27 TMS (in), N35 DATA2 (in), R31 CLKUSR (in), R34 DATA7 (in), R35 DATA6 (in), U35 DEV_OE (in), V34 DEV_CLRn (in)
part W pins: A6 RREF_R1 (in), A34 RREF_L1 (in), AB3 GXB_TX_R5n (out), AB4 GXB_TX_R5p (out), AB36 GXB_TX_L5p (out), AB37 GXB_TX_L5n (out), AC1 GXB_RX_R5n (in), AC2 GXB_RX_R5p (in), AC38 GXB_RX_L5p (in), AC39 GXB_RX_L5n (in), AD3 GXB_TX_R4n (out), AD4 GXB_TX_R4p (out), AD36 GXB_TX_L4p (out), AD37 GXB_TX_L4n (out), AE1 GXB_RX_R4n (in), AE2 GXB_RX_R4p (in), AE38 GXB_RX_L4p (in), AE39 GXB_RX_L4n (in), AF3 GXB_TX_R3n (out), AF4 GXB_TX_R3p (out), AF36 GXB_TX_L3p (out), AF37 GXB_TX_L3n (out), AG1 GXB_RX_R3n (in), AG2 GXB_RX_R3p (in), AG38 GXB_RX_L3p (in), AG39 GXB_RX_L3n (in), AH3 GXB_TX_R2n (out), AH4 GXB_TX_R2p (out), AH36 GXB_TX_L2p (out), AH37 GXB_TX_L2n (out), AJ1 GXB_RX_R2n (in), AJ2 GXB_RX_R2p (in), AJ38 GXB_RX_L2p (in), AJ39 GXB_RX_L2n (in), AP3 GXB_TX_R1n (out), AP4 GXB_TX_R1p (out), AP36 GXB_TX_L1p (out), AP37 GXB_TX_L1n (out), AR1 GXB_RX_R1n (in), AR2 GXB_RX_R1p (in), AR38 GXB_RX_L1p (in), AR39 GXB_RX_L1n (in), AT3 GXB_TX_R0n (out), AT4 GXB_TX_R0p (out), AT36 GXB_TX_L0p (out), AT37 GXB_TX_L0n (out), AU1 GXB_RX_R0n (in), AU2 GXB_RX_R0p (in), AU38 GXB_RX_L0p (in), AU39 GXB_RX_L0n (in), AW2 RREF_R0 (in), AW38 RREF_L0 (in), B3 GXB_TX_R11n (out), B4 GXB_TX_R11p (out), B36 GXB_TX_L11p (out), B37 GXB_TX_L11n (out), C1 GXB_RX_R11n (in), C2 GXB_RX_R11p (in), C38 GXB_RX_L11p (in), C39 GXB_RX_L11n (in), D3 GXB_TX_R10n (out), D4 GXB_TX_R10p (out), D36 GXB_TX_L10p (out), D37 GXB_TX_L10n (out), E1 GXB_RX_R10n (in), E2 GXB_RX_R10p (in), E38 GXB_RX_L10p (in), E39 GXB_RX_L10n (in), K3 GXB_TX_R9n (out), K4 GXB_TX_R9p (out), K36 GXB_TX_L9p (out), K37 GXB_TX_L9n (out), L1 GXB_RX_R9n (in), L2 GXB_RX_R9p (in), L38 GXB_RX_L9p (in), L39 GXB_RX_L9n (in), M3 GXB_TX_R8n (out), M4 GXB_TX_R8p (out), M36 GXB_TX_L8p (out), M37 GXB_TX_L8n (out), N1 GXB_RX_R8n (in), N2 GXB_RX_R8p (in), N38 GXB_RX_L8p (in), N39 GXB_RX_L8n (in), P3 GXB_TX_R7n (out), P4 GXB_TX_R7p (out), P36 GXB_TX_L7p (out), P37 GXB_TX_L7n (out), R1 GXB_RX_R7n (in), R2 GXB_RX_R7p (in), R38 GXB_RX_L7p (in), R39 GXB_RX_L7n (in), T3 GXB_TX_R6n (out), T4 GXB_TX_R6p (out), T36 GXB_TX_L6p (out), T37 GXB_TX_L6n (out), U1 GXB_RX_R6n (in), U2 GXB_RX_R6p (in), U38 GXB_RX_L6p (in), U39 GXB_RX_L6n (in)
part X pins: AA1 REFCLK_R2n, GXB_CMURX_R2n (in), AA2 REFCLK_R2p, GXB_CMURX_R2p (in), AA38 REFCLK_L2p, GXB_CMURX_L2p (in), AA39 REFCLK_L2n, GXB_CMURX_L2n (in), AK3 GXB_CMUTX_R1n (out), AK4 GXB_CMUTX_R1p (out), AK36 GXB_CMUTX_L1p (out), AK37 GXB_CMUTX_L1n (out), AL1 REFCLK_R1n, GXB_CMURX_R1n (in), AL2 REFCLK_R1p, GXB_CMURX_R1p (in), AL38 REFCLK_L1p, GXB_CMURX_L1p (in), AL39 REFCLK_L1n, GXB_CMURX_L1n (in), AM3 GXB_CMUTX_R0n (out), AM4 GXB_CMUTX_R0p (out), AM36 GXB_CMUTX_L0p (out), AM37 GXB_CMUTX_L0n (out), AN1 REFCLK_R0n, GXB_CMURX_R0n (in), AN2 REFCLK_R0p, GXB_CMURX_R0p (in), AN38 REFCLK_L0p, GXB_CMURX_L0p (in), AN39 REFCLK_L0n, GXB_CMURX_L0n (in), F3 GXB_CMUTX_R5n (out), F4 GXB_CMUTX_R5p (out), F36 GXB_CMUTX_L5p (out), F37 GXB_CMUTX_L5n (out), G1 REFCLK_R5n, GXB_CMURX_R5n (in), G2 REFCLK_R5p, GXB_CMURX_R5p (in), G38 REFCLK_L5p, GXB_CMURX_L5p (in), G39 REFCLK_L5n, GXB_CMURX_L5n (in), H3 GXB_CMUTX_R4n (out), H4 GXB_CMUTX_R4p (out), H36 GXB_CMUTX_L4p (out), H37 GXB_CMUTX_L4n (out), J1 REFCLK_R4n, GXB_CMURX_R4n (in), J2 REFCLK_R4p, GXB_CMURX_R4p (in), J38 REFCLK_L4p, GXB_CMURX_L4p (in), J39 REFCLK_L4n, GXB_CMURX_L4n (in), V3 GXB_CMUTX_R3n (out), V4 GXB_CMUTX_R3p (out), V36 GXB_CMUTX_L3p (out), V37 GXB_CMUTX_L3n (out), W1 REFCLK_R3n, GXB_CMURX_R3n (in), W2 REFCLK_R3p, GXB_CMURX_R3p (in), W38 REFCLK_L3p, GXB_CMURX_L3p (in), W39 REFCLK_L3n, GXB_CMURX_L3n (in), Y3 GXB_CMUTX_R2n (out), Y4 GXB_CMUTX_R2p (out), Y36 GXB_CMUTX_L2p (out), Y37 GXB_CMUTX_L2n (out)
part Y pins: A12 VCCIO7A (power), A15 VCCIO7B (power), A30 VCCIO8A (power), AA8 VCC (power), AA10 VCCA_PLL_R3 (power), AA11 VCCD_PLL_R3 (power), AA12 VCCPT (power), AA13 VCCPD5C (power), AA15 VCC (power), AA17 VCC (power), AA19 VCC (power), AA21 VCC (power), AA23 VCC (power), AA25 VCC (power), AA26 VCCPT (power), AA27 VCCPT (power), AA28 VCCD_PLL_L3 (power), AA29 VCCA_PLL_L3 (power), AA30 VCCIO1C (power), AA32 VCC (power), AB8 VCC (power), AB14 VCC (power), AB16 VCC (power), AB18 VCC (power), AB20 VCC (power), AB22 VCC (power), AB24 VCC (power), AB26 VCCPD2A (power), AB32 VCC (power), AC13 VCCPD5A (power), AC15 VCC (power), AC17 VCC (power), AC19 VCC (power), AC21 VCC (power), AC23 VCC (power), AC25 VCC (power), AD14 VCCPD4A (power), AD16 VCCPD4B (power), AD18 VCCPD4C (power), AD20 VCCPD3C (power), AD22 VCCPD3B (power), AD24 VCCPD3A (power), AE8 VCC (power), AE9 VCCIO5C (power), AE32 VCC (power), AF8 VCC (power), AF31 VCCIO2C (power), AF32 VCC (power), AG23 VCCIO3B (power), AG26 VCCIO2A (power), AG33 VCCIO2C (power), AH7 VCCIO5C (power), AH15 VCCIO4A (power), AH21 VCCIO3C (power), AH25 VCCIO3A (power), AH31 VCCIO2C (power), AJ8 VCCIO5C (power), AJ17 VCCIO4B (power), AJ19 VCCIO4C (power), AJ28 VCCIO2A (power), AK10 VCCIO5A (power), AK12 VCCPGM (power), AK15 VCCIO4A (power), AK18 VCC_CLKIN4C (power), AK19 VCCD_PLL_B2 (power), AK20 VCCD_PLL_B1 (power), AK21 VCC_CLKIN3C (power), AK22 VCCIO3C (power), AK28 VCCPGM (power), AL7 VCCIO5C (power), AL12 VCCAUX (power), AL19 VCCA_PLL_B2 (power), AL20 VCCA_PLL_B1 (power), AL26 VCCIO3A (power), AL28 VCCAUX (power), AL33 VCCIO2C (power), AM20 VCCPT (power), AM32 VCCIO2A (power), AN8 VCCIO5A (power), AP12 VCCIO4A (power), AP31 VCCIO2A (power), AR7 VCCIO5A (power), AR10 VCCIO5A (power), AR26 VCCIO3B (power), AR29 VCCIO3A (power), AT35 VCCIO2A (power), AU13 VCCIO4A (power), AU21 VCCIO4C (power), AU30 VCCIO3A (power), AW9 VCCIO5A (power), AW15 VCCIO4B (power), AW17 VCCIO4C (power), AW24 VCCIO3C (power), B8 VCCIO6A (power), C21 VCCIO7C (power), C23 VCCIO8C (power), D12 VCCIO7A (power), D30 VCCIO8A (power), D32 VCCIO1A (power), E5 VCCIO6A (power), E8 VCCIO6A (power), E19 VCCIO7C (power), E26 VCCIO8B (power), E35 VCCIO1A (power), F22 VCCIO8C (power), G11 VCCAUX (power), G32 VCCIO1A (power), G34 VCCIO1A (power), H5 VCCIO6C (power), H8 VCCIO6A (power), H20 VCCPT (power), H29 VCCAUX (power), J14 VCCIO7A (power), J19 VCCA_PLL_T2 (power), J20 VCCA_PLL_T1 (power), J28 VCCIO8A (power), J31 VCCIO1A (power), K11 VCCBAT (power), K18 VCC_CLKIN7C (power), K19 VCCD_PLL_T2 (power), K20 VCCD_PLL_T1 (power), K21 VCC_CLKIN8C (power), K25 VCCIO8B (power), K33 VCCIO1C (power), L17 VCCIO7B (power), L22 VCCIO8C (power), M9 VCCIO6A (power), M15 VCCIO7A (power), M18 VCCIO7C (power), M26 VCCIO8A (power), N32 VCCIO1C (power), P10 VCCIO6C (power), R15 VCCPD7A (power), R17 VCCPD7B (power), R19 VCCPD7C (power), R21 VCCPD8C (power), R23 VCCPD8B (power), R25 VCCPD8A (power), T11 VCCIO6C (power), T14 VCC (power), T16 VCC (power), T18 VCC (power), T20 VCC (power), T22 VCC (power), T24 VCC (power), T26 VCC (power), T29 VCCIO1C (power), U8 VCC (power), U13 VCCPD6A (power), U15 VCC (power), U17 VCC (power), U19 VCC (power), U21 VCC (power), U23 VCC (power), U25 VCC (power), U27 VCCPD1A (power), U32 VCC (power), V8 VCC (power), V13 VCCIO6C (power), V14 VCC (power), V16 VCC (power), V18 VCC (power), V20 VCC (power), V22 VCC (power), V24 VCC (power), V26 VCC (power), V32 VCC (power), W13 VCCPD6C (power), W15 VCC (power), W17 VCC (power), W19 VCC (power), W21 VCC (power), W23 VCC (power), W25 VCC (power), W27 VCCPD1C (power), Y10 VCCA_PLL_R2 (power), Y11 VCCD_PLL_R2 (power), Y13 VCCPT (power), Y14 VCC (power), Y16 VCC (power), Y18 VCC (power), Y20 VCC (power), Y22 VCC (power), Y24 VCC (power), Y26 VCCPD2C (power), Y28 VCCD_PLL_L2 (power), Y29 VCCA_PLL_L2 (power)